# Altium integrated library Cypress Memory Static RAM.IntLib: 171 symbols (part 4 of 7)
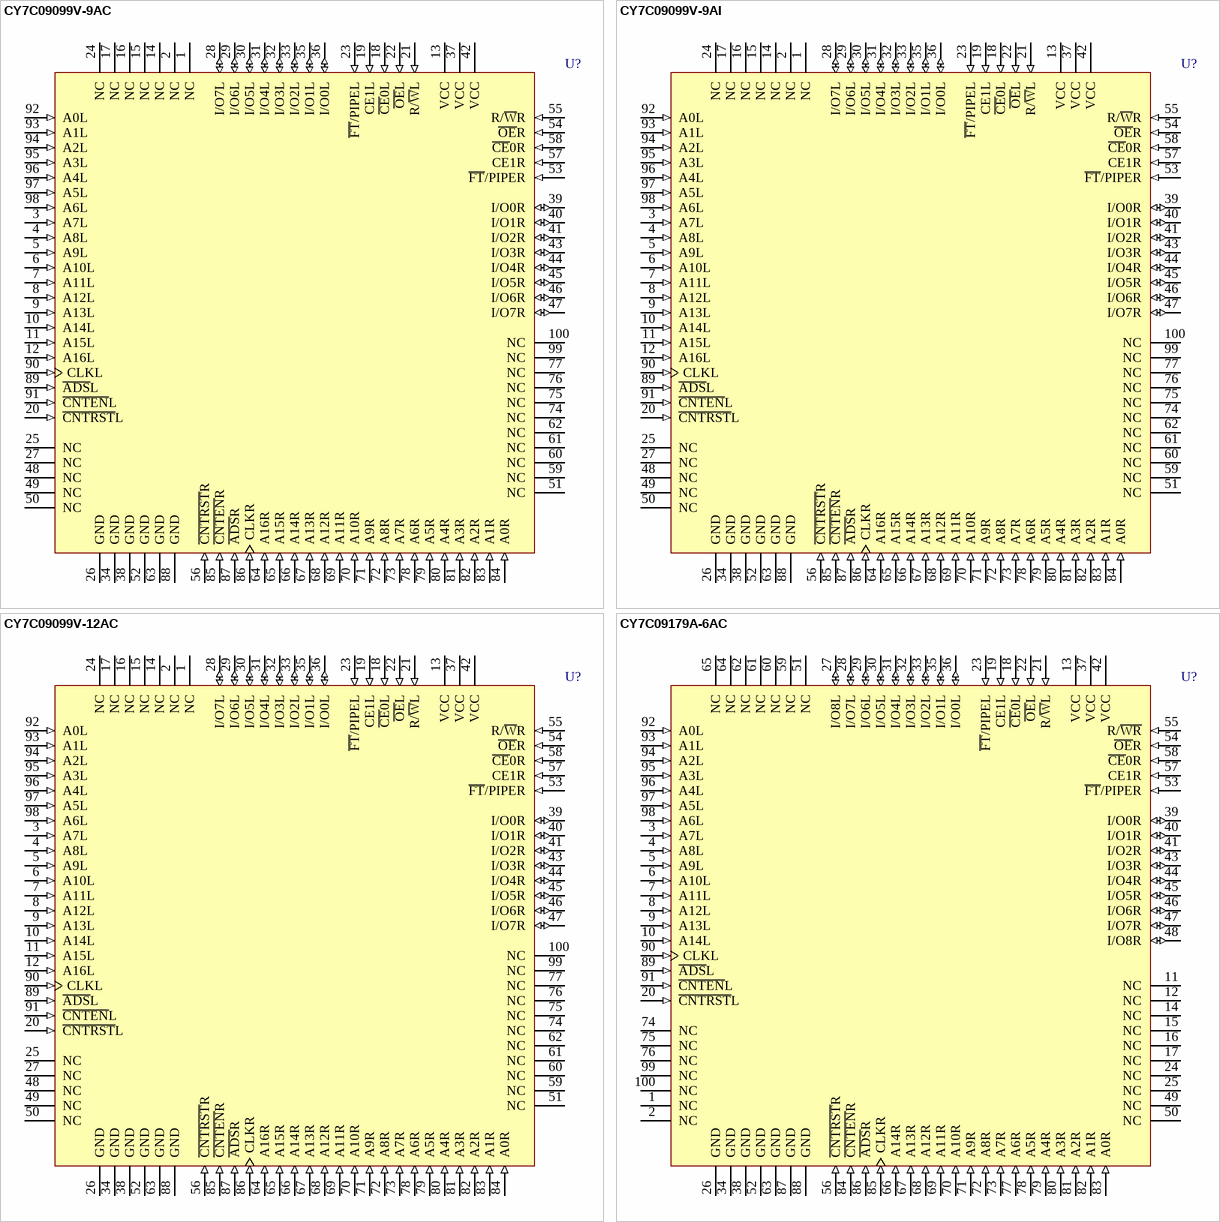
[diagram p28: symbols CY7C09099V-9AC to CY7C09179A-6AC]

## CY7C09099V-12AC
designator U?
3.3V 128K x 8 Synchronous Dual-Port Static RAM; Published: 11-Dec-2002; LatestRevisionDate: 13-Apr-2006; LatestRevisionNote: IPC-7351 Footprint Added.; DatasheetVersion: 2-Feb-2001; PackageVersion: Mar-2001; PackageReference: A100; Publisher: Altium Limited; PackageDescription: 100-Pin Thin Quad Flat Pack 0.5 mm Pitch; ComponentLink1Description: Manufacturer Link; ComponentLink1URL: http://www.cypress.com/; ComponentLink2Description: Datasheet; ComponentLink2URL: http://www.cypress.com/portal/server.pt/gateway/PTARGS_0_2_1524_209_259_43/http%3B/sjapp20.mis.cypress.com%3B7001/publishedcontent/publish/design_resources/datasheets/contents/cy7c09079v_5.pdf
footprint A100_N (Thin QFP, 100-Leads, Body 14x14mm, Pitch 0.5mm, IPC Medium Density)
footprint A100_L (Thin QFP, 100-Leads, Body 14x14mm, Pitch 0.5mm, IPC High Density)
footprint A100_M (Thin QFP, 100-Leads, Body 14x14mm, Pitch 0.5mm, IPC Low Density)
3D model CY7C09099V-A100 (100-Pin Thin Quad Flat Pack 0.5 mm Pitch)
pins: 1 NC, 2 NC, 3 A7L (in), 4 A8L (in), 5 A9L (in), 6 A10L (in), 7 A11L (in), 8 A12L (in), 9 A13L (in), 10 A14L (in), 11 A15L (in), 12 A16L (in), 13 VCC (power), 14 NC, 15 NC, 16 NC, 17 NC, 18 ~{CE}0L (in), 19 CE1L (in), 20 ~{CNTRST}L (in), 21 R/~{W}L (in), 22 ~{OE}L (in), 23 ~{FT}/PIPEL (in), 24 NC, 25 NC, 26 GND (power), 27 NC, 28 I/O7L (io), 29 I/O6L (io), 30 I/O5L (io), 31 I/O4L (io), 32 I/O3L (io), 33 I/O2L (io), 34 GND (power), 35 I/O1L (io), 36 I/O0L (io), 37 VCC (power), 38 GND (power), 39 I/O0R (io), 40 I/O1R (io), 41 I/O2R (io), 42 VCC (power), 43 I/O3R (io), 44 I/O4R (io), 45 I/O5R (io), 46 I/O6R (io), 47 I/O7R (io), 48 NC, 49 NC, 50 NC, 51 NC, 52 GND (power), 53 ~{FT}/PIPER (in), 54 ~{OE}R (in), 55 R/~{W}R (in), 56 ~{CNTRST}R (in), 57 CE1R (in), 58 ~{CE}0R (in), 59 NC, 60 NC, 61 NC, 62 NC, 63 GND (power), 64 A16R (in), 65 A15R (in), 66 A14R (in), 67 A13R (in), 68 A12R (in), 69 A11R (in), 70 A10R (in), 71 A9R (in), 72 A8R (in), 73 A7R (in), 74 NC, 75 NC, 76 NC, 77 NC, 78 A6R (in), 79 A5R (in), 80 A4R (in), 81 A3R (in), 82 A2R (in), 83 A1R (in), 84 A0R (in), 85 ~{CNTEN}R (in), 86 CLKR (in), 87 ~{ADS}R (in), 88 GND (power), 89 ~{ADS}L (in), 90 CLKL (in), 91 ~{CNTEN}L (in), 92 A0L (in), 93 A1L (in), 94 A2L (in), 95 A3L (in), 96 A4L (in), 97 A5L (in), 98 A6L (in), 99 NC, 100 NC

## CY7C09179A-6AC
designator U?
32K x 9 Synchronous Dual-Port RAM; Published: 11-Dec-2002; LatestRevisionDate: 13-Apr-2006; LatestRevisionNote: IPC-7351 Footprint Added.; DatasheetVersion: 3-Mar-2000; PackageVersion: Mar-2001; PackageReference: A100; Publisher: Altium Limited; PackageDescription: 100-Pin Thin Quad Flat Pack 0.5 mm Pitch; ComponentLink1Description: Manufacturer Link; ComponentLink1URL: http://www.cypress.com/; ComponentLink2Description: Datasheet; ComponentLink2URL: http://www.cypress.com/portal/server.pt/gateway/PTARGS_0_2_1524_209_259_43/http%3B/sjapp20.mis.cypress.com%3B7001/publishedcontent/publish/design_resources/datasheets/contents/cy7c09269a_5.pdf
footprint A100_N (Thin QFP, 100-Leads, Body 14x14mm, Pitch 0.5mm, IPC Medium Density)
footprint A100_L (Thin QFP, 100-Leads, Body 14x14mm, Pitch 0.5mm, IPC High Density)
footprint A100_M (Thin QFP, 100-Leads, Body 14x14mm, Pitch 0.5mm, IPC Low Density)
3D model CY7C09179A-A100 (100-Pin Thin Quad Flat Pack 0.5 mm Pitch)
pins: 1 NC, 2 NC, 3 A7L (in), 4 A8L (in), 5 A9L (in), 6 A10L (in), 7 A11L (in), 8 A12L (in), 9 A13L (in), 10 A14L (in), 11 NC, 12 NC, 13 VCC (power), 14 NC, 15 NC, 16 NC, 17 NC, 18 ~{CE}0L (in), 19 CE1L (in), 20 ~{CNTRST}L (in), 21 R/~{W}L (in), 22 ~{OE}L (in), 23 ~{FT}/PIPEL (in), 24 NC, 25 NC, 26 GND (power), 27 I/O8L (io), 28 I/O7L (io), 29 I/O6L (io), 30 I/O5L (io), 31 I/O4L (io), 32 I/O3L (io), 33 I/O2L (io), 34 GND (power), 35 I/O1L (io), 36 I/O0L (io), 37 VCC (power), 38 GND (power), 39 I/O0R (io), 40 I/O1R (io), 41 I/O2R (io), 42 VCC (power), 43 I/O3R (io), 44 I/O4R (io), 45 I/O5R (io), 46 I/O6R (io), 47 I/O7R (io), 48 I/O8R (io), 49 NC, 50 NC, 51 NC, 52 GND (power), 53 ~{FT}/PIPER (in), 54 ~{OE}R (in), 55 R/~{WR} (in), 56 ~{CNTRST}R (in), 57 CE1R (in), 58 ~{CE}0R (in), 59 NC, 60 NC, 61 NC, 62 NC, 63 GND (power), 64 NC, 65 NC, 66 A14R (in), 67 A13R (in), 68 A12R (in), 69 A11R (in), 70 A10R (in), 71 A9R (in), 72 A8R (in), 73 A7R (in), 74 NC, 75 NC, 76 NC, 77 A6R (in), 78 A5R (in), 79 A4R (in), 80 A3R (in), 81 A2R (in), 82 A1R (in), 83 A0R (in), 84 ~{CNTEN}R (in), 85 CLKR (in), 86 ~{ADS}R (in), 87 GND (power), 88 GND (power), 89 ~{ADS}L (in), 90 CLKL (in), 91 ~{CNTEN}L (in), 92 A0L (in), 93 A1L (in), 94 A2L (in), 95 A3L (in), 96 A4L (in), 97 A5L (in), 98 A6L (in), 99 NC, 100 NC

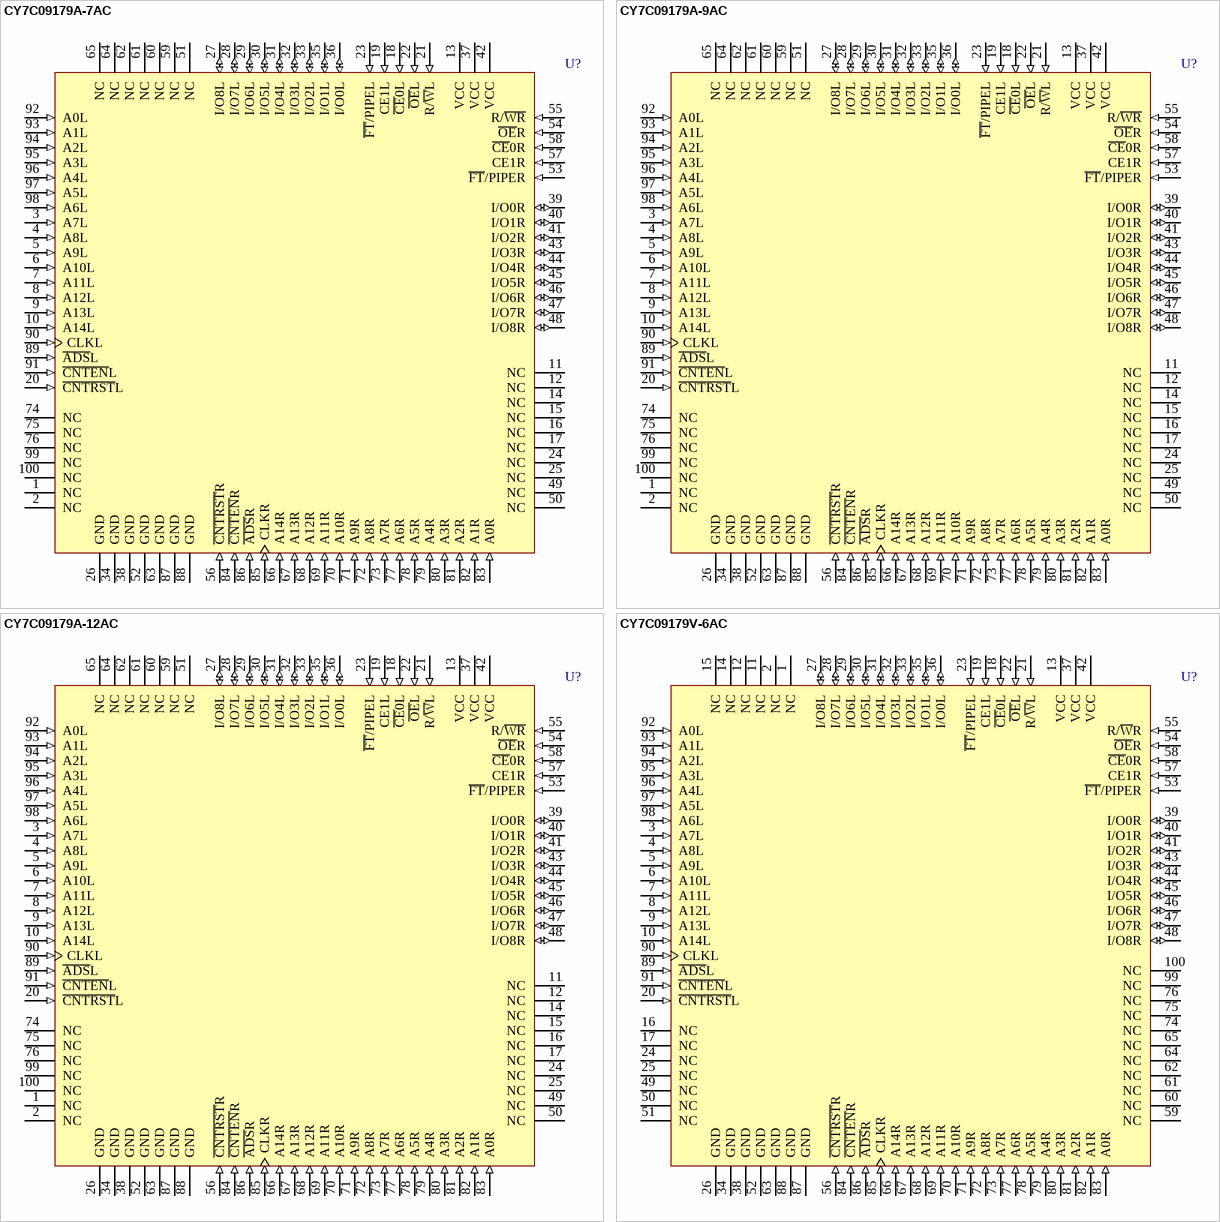
[diagram p12: symbols CY7C09179A-7AC to CY7C09179V-6AC]

## CY7C09179A-7AC
designator U?
32K x 9 Synchronous Dual-Port RAM; Published: 11-Dec-2002; LatestRevisionDate: 13-Apr-2006; LatestRevisionNote: IPC-7351 Footprint Added.; DatasheetVersion: 3-Mar-2000; PackageVersion: Mar-2001; PackageReference: A100; Publisher: Altium Limited; PackageDescription: 100-Pin Thin Quad Flat Pack 0.5 mm Pitch; ComponentLink1Description: Manufacturer Link; ComponentLink1URL: http://www.cypress.com/; ComponentLink2Description: Datasheet; ComponentLink2URL: http://www.cypress.com/portal/server.pt/gateway/PTARGS_0_2_1524_209_259_43/http%3B/sjapp20.mis.cypress.com%3B7001/publishedcontent/publish/design_resources/datasheets/contents/cy7c09269a_5.pdf
footprint A100_N (Thin QFP, 100-Leads, Body 14x14mm, Pitch 0.5mm, IPC Medium Density)
footprint A100_L (Thin QFP, 100-Leads, Body 14x14mm, Pitch 0.5mm, IPC High Density)
footprint A100_M (Thin QFP, 100-Leads, Body 14x14mm, Pitch 0.5mm, IPC Low Density)
3D model CY7C09179A-A100 (100-Pin Thin Quad Flat Pack 0.5 mm Pitch)
pins: 1 NC, 2 NC, 3 A7L (in), 4 A8L (in), 5 A9L (in), 6 A10L (in), 7 A11L (in), 8 A12L (in), 9 A13L (in), 10 A14L (in), 11 NC, 12 NC, 13 VCC (power), 14 NC, 15 NC, 16 NC, 17 NC, 18 ~{CE}0L (in), 19 CE1L (in), 20 ~{CNTRST}L (in), 21 R/~{W}L (in), 22 ~{OE}L (in), 23 ~{FT}/PIPEL (in), 24 NC, 25 NC, 26 GND (power), 27 I/O8L (io), 28 I/O7L (io), 29 I/O6L (io), 30 I/O5L (io), 31 I/O4L (io), 32 I/O3L (io), 33 I/O2L (io), 34 GND (power), 35 I/O1L (io), 36 I/O0L (io), 37 VCC (power), 38 GND (power), 39 I/O0R (io), 40 I/O1R (io), 41 I/O2R (io), 42 VCC (power), 43 I/O3R (io), 44 I/O4R (io), 45 I/O5R (io), 46 I/O6R (io), 47 I/O7R (io), 48 I/O8R (io), 49 NC, 50 NC, 51 NC, 52 GND (power), 53 ~{FT}/PIPER (in), 54 ~{OE}R (in), 55 R/~{WR} (in), 56 ~{CNTRST}R (in), 57 CE1R (in), 58 ~{CE}0R (in), 59 NC, 60 NC, 61 NC, 62 NC, 63 GND (power), 64 NC, 65 NC, 66 A14R (in), 67 A13R (in), 68 A12R (in), 69 A11R (in), 70 A10R (in), 71 A9R (in), 72 A8R (in), 73 A7R (in), 74 NC, 75 NC, 76 NC, 77 A6R (in), 78 A5R (in), 79 A4R (in), 80 A3R (in), 81 A2R (in), 82 A1R (in), 83 A0R (in), 84 ~{CNTEN}R (in), 85 CLKR (in), 86 ~{ADS}R (in), 87 GND (power), 88 GND (power), 89 ~{ADS}L (in), 90 CLKL (in), 91 ~{CNTEN}L (in), 92 A0L (in), 93 A1L (in), 94 A2L (in), 95 A3L (in), 96 A4L (in), 97 A5L (in), 98 A6L (in), 99 NC, 100 NC

## CY7C09179A-9AC
designator U?
32K x 9 Synchronous Dual-Port RAM; Published: 11-Dec-2002; LatestRevisionDate: 13-Apr-2006; LatestRevisionNote: IPC-7351 Footprint Added.; DatasheetVersion: 3-Mar-2000; PackageVersion: Mar-2001; PackageReference: A100; Publisher: Altium Limited; PackageDescription: 100-Pin Thin Quad Flat Pack 0.5 mm Pitch; ComponentLink1Description: Manufacturer Link; ComponentLink1URL: http://www.cypress.com/; ComponentLink2Description: Datasheet; ComponentLink2URL: http://www.cypress.com/portal/server.pt/gateway/PTARGS_0_2_1524_209_259_43/http%3B/sjapp20.mis.cypress.com%3B7001/publishedcontent/publish/design_resources/datasheets/contents/cy7c09269a_5.pdf
footprint A100_N (Thin QFP, 100-Leads, Body 14x14mm, Pitch 0.5mm, IPC Medium Density)
footprint A100_L (Thin QFP, 100-Leads, Body 14x14mm, Pitch 0.5mm, IPC High Density)
footprint A100_M (Thin QFP, 100-Leads, Body 14x14mm, Pitch 0.5mm, IPC Low Density)
3D model CY7C09179A-A100 (100-Pin Thin Quad Flat Pack 0.5 mm Pitch)
pins: 1 NC, 2 NC, 3 A7L (in), 4 A8L (in), 5 A9L (in), 6 A10L (in), 7 A11L (in), 8 A12L (in), 9 A13L (in), 10 A14L (in), 11 NC, 12 NC, 13 VCC (power), 14 NC, 15 NC, 16 NC, 17 NC, 18 ~{CE}0L (in), 19 CE1L (in), 20 ~{CNTRST}L (in), 21 R/~{W}L (in), 22 ~{OE}L (in), 23 ~{FT}/PIPEL (in), 24 NC, 25 NC, 26 GND (power), 27 I/O8L (io), 28 I/O7L (io), 29 I/O6L (io), 30 I/O5L (io), 31 I/O4L (io), 32 I/O3L (io), 33 I/O2L (io), 34 GND (power), 35 I/O1L (io), 36 I/O0L (io), 37 VCC (power), 38 GND (power), 39 I/O0R (io), 40 I/O1R (io), 41 I/O2R (io), 42 VCC (power), 43 I/O3R (io), 44 I/O4R (io), 45 I/O5R (io), 46 I/O6R (io), 47 I/O7R (io), 48 I/O8R (io), 49 NC, 50 NC, 51 NC, 52 GND (power), 53 ~{FT}/PIPER (in), 54 ~{OE}R (in), 55 R/~{WR} (in), 56 ~{CNTRST}R (in), 57 CE1R (in), 58 ~{CE}0R (in), 59 NC, 60 NC, 61 NC, 62 NC, 63 GND (power), 64 NC, 65 NC, 66 A14R (in), 67 A13R (in), 68 A12R (in), 69 A11R (in), 70 A10R (in), 71 A9R (in), 72 A8R (in), 73 A7R (in), 74 NC, 75 NC, 76 NC, 77 A6R (in), 78 A5R (in), 79 A4R (in), 80 A3R (in), 81 A2R (in), 82 A1R (in), 83 A0R (in), 84 ~{CNTEN}R (in), 85 CLKR (in), 86 ~{ADS}R (in), 87 GND (power), 88 GND (power), 89 ~{ADS}L (in), 90 CLKL (in), 91 ~{CNTEN}L (in), 92 A0L (in), 93 A1L (in), 94 A2L (in), 95 A3L (in), 96 A4L (in), 97 A5L (in), 98 A6L (in), 99 NC, 100 NC

## CY7C09179A-12AC
designator U?
32K x 9 Synchronous Dual-Port RAM; Published: 11-Dec-2002; LatestRevisionDate: 13-Apr-2006; LatestRevisionNote: IPC-7351 Footprint Added.; DatasheetVersion: 3-Mar-2000; PackageVersion: Mar-2001; PackageReference: A100; Publisher: Altium Limited; PackageDescription: 100-Pin Thin Quad Flat Pack 0.5 mm Pitch; ComponentLink1Description: Manufacturer Link; ComponentLink1URL: http://www.cypress.com/; ComponentLink2Description: Datasheet; ComponentLink2URL: http://www.cypress.com/portal/server.pt/gateway/PTARGS_0_2_1524_209_259_43/http%3B/sjapp20.mis.cypress.com%3B7001/publishedcontent/publish/design_resources/datasheets/contents/cy7c09269a_5.pdf
footprint A100_N (Thin QFP, 100-Leads, Body 14x14mm, Pitch 0.5mm, IPC Medium Density)
footprint A100_L (Thin QFP, 100-Leads, Body 14x14mm, Pitch 0.5mm, IPC High Density)
footprint A100_M (Thin QFP, 100-Leads, Body 14x14mm, Pitch 0.5mm, IPC Low Density)
3D model CY7C09179A-A100 (100-Pin Thin Quad Flat Pack 0.5 mm Pitch)
pins: 1 NC, 2 NC, 3 A7L (in), 4 A8L (in), 5 A9L (in), 6 A10L (in), 7 A11L (in), 8 A12L (in), 9 A13L (in), 10 A14L (in), 11 NC, 12 NC, 13 VCC (power), 14 NC, 15 NC, 16 NC, 17 NC, 18 ~{CE}0L (in), 19 CE1L (in), 20 ~{CNTRST}L (in), 21 R/~{W}L (in), 22 ~{OE}L (in), 23 ~{FT}/PIPEL (in), 24 NC, 25 NC, 26 GND (power), 27 I/O8L (io), 28 I/O7L (io), 29 I/O6L (io), 30 I/O5L (io), 31 I/O4L (io), 32 I/O3L (io), 33 I/O2L (io), 34 GND (power), 35 I/O1L (io), 36 I/O0L (io), 37 VCC (power), 38 GND (power), 39 I/O0R (io), 40 I/O1R (io), 41 I/O2R (io), 42 VCC (power), 43 I/O3R (io), 44 I/O4R (io), 45 I/O5R (io), 46 I/O6R (io), 47 I/O7R (io), 48 I/O8R (io), 49 NC, 50 NC, 51 NC, 52 GND (power), 53 ~{FT}/PIPER (in), 54 ~{OE}R (in), 55 R/~{WR} (in), 56 ~{CNTRST}R (in), 57 CE1R (in), 58 ~{CE}0R (in), 59 NC, 60 NC, 61 NC, 62 NC, 63 GND (power), 64 NC, 65 NC, 66 A14R (in), 67 A13R (in), 68 A12R (in), 69 A11R (in), 70 A10R (in), 71 A9R (in), 72 A8R (in), 73 A7R (in), 74 NC, 75 NC, 76 NC, 77 A6R (in), 78 A5R (in), 79 A4R (in), 80 A3R (in), 81 A2R (in), 82 A1R (in), 83 A0R (in), 84 ~{CNTEN}R (in), 85 CLKR (in), 86 ~{ADS}R (in), 87 GND (power), 88 GND (power), 89 ~{ADS}L (in), 90 CLKL (in), 91 ~{CNTEN}L (in), 92 A0L (in), 93 A1L (in), 94 A2L (in), 95 A3L (in), 96 A4L (in), 97 A5L (in), 98 A6L (in), 99 NC, 100 NC

## CY7C09179V-6AC
designator U?
3.3V 32K x 9 Synchronous Dual-Port Static RAM; Published: 11-Dec-2002; LatestRevisionDate: 13-Apr-2006; LatestRevisionNote: IPC-7351 Footprint Added.; DatasheetVersion: 2-Feb-2001; PackageVersion: Mar-2001; PackageReference: A100; Publisher: Altium Limited; PackageDescription: 100-Pin Thin Quad Flat Pack 0.5 mm Pitch; ComponentLink1Description: Manufacturer Link; ComponentLink1URL: http://www.cypress.com/; ComponentLink2Description: Datasheet; ComponentLink2URL: http://www.cypress.com/portal/server.pt/gateway/PTARGS_0_2_1524_209_259_43/http%3B/sjapp20.mis.cypress.com%3B7001/publishedcontent/publish/design_resources/datasheets/contents/cy7c09079v_5.pdf
footprint A100_N (Thin QFP, 100-Leads, Body 14x14mm, Pitch 0.5mm, IPC Medium Density)
footprint A100_L (Thin QFP, 100-Leads, Body 14x14mm, Pitch 0.5mm, IPC High Density)
footprint A100_M (Thin QFP, 100-Leads, Body 14x14mm, Pitch 0.5mm, IPC Low Density)
3D model CY7C09179V-A100 (100-Pin Thin Quad Flat Pack 0.5 mm Pitch)
pins: 1 NC, 2 NC, 3 A7L (in), 4 A8L (in), 5 A9L (in), 6 A10L (in), 7 A11L (in), 8 A12L (in), 9 A13L (in), 10 A14L (in), 11 NC, 12 NC, 13 VCC (power), 14 NC, 15 NC, 16 NC, 17 NC, 18 ~{CE}0L (in), 19 CE1L (in), 20 ~{CNTRST}L (in), 21 R/~{W}L (in), 22 ~{OE}L (in), 23 ~{FT}/PIPEL (in), 24 NC, 25 NC, 26 GND (power), 27 I/O8L (io), 28 I/O7L (io), 29 I/O6L (io), 30 I/O5L (io), 31 I/O4L (io), 32 I/O3L (io), 33 I/O2L (io), 34 GND (power), 35 I/O1L (io), 36 I/O0L (io), 37 VCC (power), 38 GND (power), 39 I/O0R (io), 40 I/O1R (io), 41 I/O2R (io), 42 VCC (power), 43 I/O3R (io), 44 I/O4R (io), 45 I/O5R (io), 46 I/O6R (io), 47 I/O7R (io), 48 I/O8R (io), 49 NC, 50 NC, 51 NC, 52 GND (power), 53 ~{FT}/PIPER (in), 54 ~{OE}R (in), 55 R/~{W}R (in), 56 ~{CNTRST}R (in), 57 CE1R (in), 58 ~{CE}0R (in), 59 NC, 60 NC, 61 NC, 62 NC, 63 GND (power), 64 NC, 65 NC, 66 A14R (in), 67 A13R (in), 68 A12R (in), 69 A11R (in), 70 A10R (in), 71 A9R (in), 72 A8R (in), 73 A7R (in), 74 NC, 75 NC, 76 NC, 77 A6R (in), 78 A5R (in), 79 A4R (in), 80 A3R (in), 81 A2R (in), 82 A1R (in), 83 A0R (in), 84 ~{CNTEN}R (in), 85 CLKR (in), 86 ~{ADS}R (in), 87 GND (power), 88 GND (power), 89 ~{ADS}L (in), 90 CLKL (in), 91 ~{CNTEN}L (in), 92 A0L (in), 93 A1L (in), 94 A2L (in), 95 A3L (in), 96 A4L (in), 97 A5L (in), 98 A6L (in), 99 NC, 100 NC

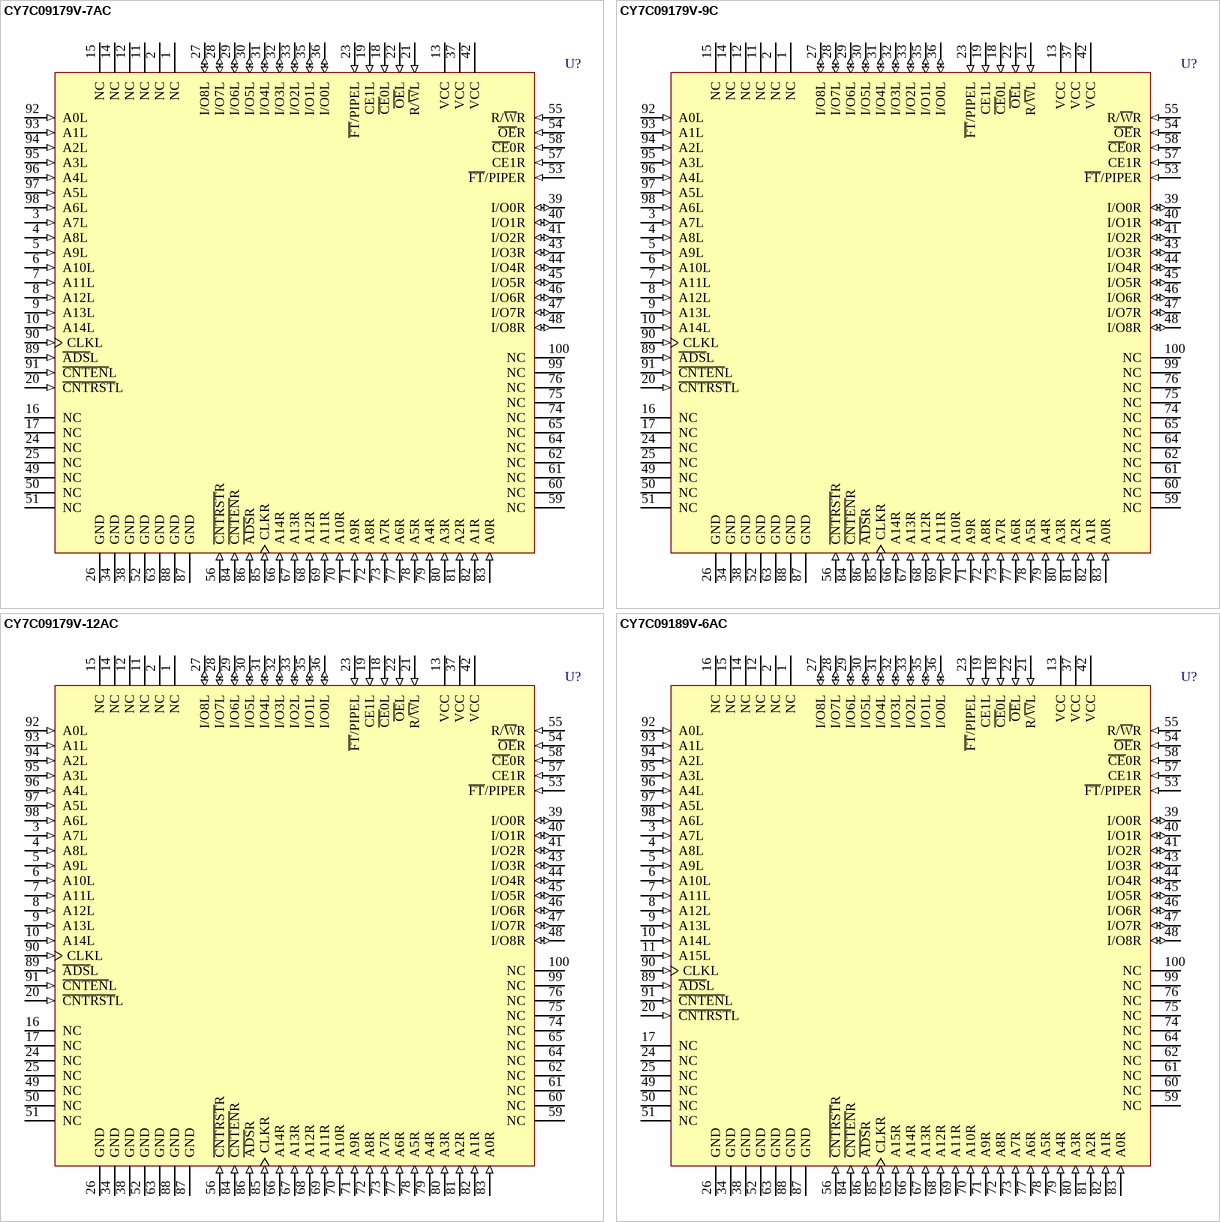
[diagram p13: symbols CY7C09179V-7AC to CY7C09189V-6AC]

## CY7C09179V-7AC
designator U?
3.3V 32K x 9 Synchronous Dual-Port Static RAM; Published: 11-Dec-2002; LatestRevisionDate: 13-Apr-2006; LatestRevisionNote: IPC-7351 Footprint Added.; DatasheetVersion: 2-Feb-2001; PackageVersion: Mar-2001; PackageReference: A100; Publisher: Altium Limited; PackageDescription: 100-Pin Thin Quad Flat Pack 0.5 mm Pitch; ComponentLink1Description: Manufacturer Link; ComponentLink1URL: http://www.cypress.com/; ComponentLink2Description: Datasheet; ComponentLink2URL: http://www.cypress.com/portal/server.pt/gateway/PTARGS_0_2_1524_209_259_43/http%3B/sjapp20.mis.cypress.com%3B7001/publishedcontent/publish/design_resources/datasheets/contents/cy7c09079v_5.pdf
footprint A100_N (Thin QFP, 100-Leads, Body 14x14mm, Pitch 0.5mm, IPC Medium Density)
footprint A100_L (Thin QFP, 100-Leads, Body 14x14mm, Pitch 0.5mm, IPC High Density)
footprint A100_M (Thin QFP, 100-Leads, Body 14x14mm, Pitch 0.5mm, IPC Low Density)
3D model CY7C09179V-A100 (100-Pin Thin Quad Flat Pack 0.5 mm Pitch)
pins: 1 NC, 2 NC, 3 A7L (in), 4 A8L (in), 5 A9L (in), 6 A10L (in), 7 A11L (in), 8 A12L (in), 9 A13L (in), 10 A14L (in), 11 NC, 12 NC, 13 VCC (power), 14 NC, 15 NC, 16 NC, 17 NC, 18 ~{CE}0L (in), 19 CE1L (in), 20 ~{CNTRST}L (in), 21 R/~{W}L (in), 22 ~{OE}L (in), 23 ~{FT}/PIPEL (in), 24 NC, 25 NC, 26 GND (power), 27 I/O8L (io), 28 I/O7L (io), 29 I/O6L (io), 30 I/O5L (io), 31 I/O4L (io), 32 I/O3L (io), 33 I/O2L (io), 34 GND (power), 35 I/O1L (io), 36 I/O0L (io), 37 VCC (power), 38 GND (power), 39 I/O0R (io), 40 I/O1R (io), 41 I/O2R (io), 42 VCC (power), 43 I/O3R (io), 44 I/O4R (io), 45 I/O5R (io), 46 I/O6R (io), 47 I/O7R (io), 48 I/O8R (io), 49 NC, 50 NC, 51 NC, 52 GND (power), 53 ~{FT}/PIPER (in), 54 ~{OE}R (in), 55 R/~{W}R (in), 56 ~{CNTRST}R (in), 57 CE1R (in), 58 ~{CE}0R (in), 59 NC, 60 NC, 61 NC, 62 NC, 63 GND (power), 64 NC, 65 NC, 66 A14R (in), 67 A13R (in), 68 A12R (in), 69 A11R (in), 70 A10R (in), 71 A9R (in), 72 A8R (in), 73 A7R (in), 74 NC, 75 NC, 76 NC, 77 A6R (in), 78 A5R (in), 79 A4R (in), 80 A3R (in), 81 A2R (in), 82 A1R (in), 83 A0R (in), 84 ~{CNTEN}R (in), 85 CLKR (in), 86 ~{ADS}R (in), 87 GND (power), 88 GND (power), 89 ~{ADS}L (in), 90 CLKL (in), 91 ~{CNTEN}L (in), 92 A0L (in), 93 A1L (in), 94 A2L (in), 95 A3L (in), 96 A4L (in), 97 A5L (in), 98 A6L (in), 99 NC, 100 NC

## CY7C09179V-9C
designator U?
3.3V 32K x 9 Synchronous Dual-Port Static RAM; Published: 11-Dec-2002; LatestRevisionDate: 13-Apr-2006; LatestRevisionNote: IPC-7351 Footprint Added.; DatasheetVersion: 2-Feb-2001; PackageVersion: Mar-2001; PackageReference: A100; Publisher: Altium Limited; PackageDescription: 100-Pin Thin Quad Flat Pack 0.5 mm Pitch; ComponentLink1Description: Manufacturer Link; ComponentLink1URL: http://www.cypress.com/; ComponentLink2Description: Datasheet; ComponentLink2URL: http://www.cypress.com/portal/server.pt/gateway/PTARGS_0_2_1524_209_259_43/http%3B/sjapp20.mis.cypress.com%3B7001/publishedcontent/publish/design_resources/datasheets/contents/cy7c09079v_5.pdf
footprint A100_N (Thin QFP, 100-Leads, Body 14x14mm, Pitch 0.5mm, IPC Medium Density)
footprint A100_L (Thin QFP, 100-Leads, Body 14x14mm, Pitch 0.5mm, IPC High Density)
footprint A100_M (Thin QFP, 100-Leads, Body 14x14mm, Pitch 0.5mm, IPC Low Density)
3D model CY7C09179V-A100 (100-Pin Thin Quad Flat Pack 0.5 mm Pitch)
pins: 1 NC, 2 NC, 3 A7L (in), 4 A8L (in), 5 A9L (in), 6 A10L (in), 7 A11L (in), 8 A12L (in), 9 A13L (in), 10 A14L (in), 11 NC, 12 NC, 13 VCC (power), 14 NC, 15 NC, 16 NC, 17 NC, 18 ~{CE}0L (in), 19 CE1L (in), 20 ~{CNTRST}L (in), 21 R/~{W}L (in), 22 ~{OE}L (in), 23 ~{FT}/PIPEL (in), 24 NC, 25 NC, 26 GND (power), 27 I/O8L (io), 28 I/O7L (io), 29 I/O6L (io), 30 I/O5L (io), 31 I/O4L (io), 32 I/O3L (io), 33 I/O2L (io), 34 GND (power), 35 I/O1L (io), 36 I/O0L (io), 37 VCC (power), 38 GND (power), 39 I/O0R (io), 40 I/O1R (io), 41 I/O2R (io), 42 VCC (power), 43 I/O3R (io), 44 I/O4R (io), 45 I/O5R (io), 46 I/O6R (io), 47 I/O7R (io), 48 I/O8R (io), 49 NC, 50 NC, 51 NC, 52 GND (power), 53 ~{FT}/PIPER (in), 54 ~{OE}R (in), 55 R/~{W}R (in), 56 ~{CNTRST}R (in), 57 CE1R (in), 58 ~{CE}0R (in), 59 NC, 60 NC, 61 NC, 62 NC, 63 GND (power), 64 NC, 65 NC, 66 A14R (in), 67 A13R (in), 68 A12R (in), 69 A11R (in), 70 A10R (in), 71 A9R (in), 72 A8R (in), 73 A7R (in), 74 NC, 75 NC, 76 NC, 77 A6R (in), 78 A5R (in), 79 A4R (in), 80 A3R (in), 81 A2R (in), 82 A1R (in), 83 A0R (in), 84 ~{CNTEN}R (in), 85 CLKR (in), 86 ~{ADS}R (in), 87 GND (power), 88 GND (power), 89 ~{ADS}L (in), 90 CLKL (in), 91 ~{CNTEN}L (in), 92 A0L (in), 93 A1L (in), 94 A2L (in), 95 A3L (in), 96 A4L (in), 97 A5L (in), 98 A6L (in), 99 NC, 100 NC

## CY7C09179V-12AC
designator U?
3.3V 32K x 9 Synchronous Dual-Port Static RAM; Published: 11-Dec-2002; LatestRevisionDate: 13-Apr-2006; LatestRevisionNote: IPC-7351 Footprint Added.; DatasheetVersion: 2-Feb-2001; PackageVersion: Mar-2001; PackageReference: A100; Publisher: Altium Limited; PackageDescription: 100-Pin Thin Quad Flat Pack 0.5 mm Pitch; ComponentLink1Description: Manufacturer Link; ComponentLink1URL: http://www.cypress.com/; ComponentLink2Description: Datasheet; ComponentLink2URL: http://www.cypress.com/portal/server.pt/gateway/PTARGS_0_2_1524_209_259_43/http%3B/sjapp20.mis.cypress.com%3B7001/publishedcontent/publish/design_resources/datasheets/contents/cy7c09079v_5.pdf
footprint A100_N (Thin QFP, 100-Leads, Body 14x14mm, Pitch 0.5mm, IPC Medium Density)
footprint A100_L (Thin QFP, 100-Leads, Body 14x14mm, Pitch 0.5mm, IPC High Density)
footprint A100_M (Thin QFP, 100-Leads, Body 14x14mm, Pitch 0.5mm, IPC Low Density)
3D model CY7C09179V-A100 (100-Pin Thin Quad Flat Pack 0.5 mm Pitch)
pins: 1 NC, 2 NC, 3 A7L (in), 4 A8L (in), 5 A9L (in), 6 A10L (in), 7 A11L (in), 8 A12L (in), 9 A13L (in), 10 A14L (in), 11 NC, 12 NC, 13 VCC (power), 14 NC, 15 NC, 16 NC, 17 NC, 18 ~{CE}0L (in), 19 CE1L (in), 20 ~{CNTRST}L (in), 21 R/~{W}L (in), 22 ~{OE}L (in), 23 ~{FT}/PIPEL (in), 24 NC, 25 NC, 26 GND (power), 27 I/O8L (io), 28 I/O7L (io), 29 I/O6L (io), 30 I/O5L (io), 31 I/O4L (io), 32 I/O3L (io), 33 I/O2L (io), 34 GND (power), 35 I/O1L (io), 36 I/O0L (io), 37 VCC (power), 38 GND (power), 39 I/O0R (io), 40 I/O1R (io), 41 I/O2R (io), 42 VCC (power), 43 I/O3R (io), 44 I/O4R (io), 45 I/O5R (io), 46 I/O6R (io), 47 I/O7R (io), 48 I/O8R (io), 49 NC, 50 NC, 51 NC, 52 GND (power), 53 ~{FT}/PIPER (in), 54 ~{OE}R (in), 55 R/~{W}R (in), 56 ~{CNTRST}R (in), 57 CE1R (in), 58 ~{CE}0R (in), 59 NC, 60 NC, 61 NC, 62 NC, 63 GND (power), 64 NC, 65 NC, 66 A14R (in), 67 A13R (in), 68 A12R (in), 69 A11R (in), 70 A10R (in), 71 A9R (in), 72 A8R (in), 73 A7R (in), 74 NC, 75 NC, 76 NC, 77 A6R (in), 78 A5R (in), 79 A4R (in), 80 A3R (in), 81 A2R (in), 82 A1R (in), 83 A0R (in), 84 ~{CNTEN}R (in), 85 CLKR (in), 86 ~{ADS}R (in), 87 GND (power), 88 GND (power), 89 ~{ADS}L (in), 90 CLKL (in), 91 ~{CNTEN}L (in), 92 A0L (in), 93 A1L (in), 94 A2L (in), 95 A3L (in), 96 A4L (in), 97 A5L (in), 98 A6L (in), 99 NC, 100 NC

## CY7C09189V-6AC
designator U?
3.3V 64K x 9 Synchronous Dual-Port Static RAM; Published: 11-Dec-2002; LatestRevisionDate: 13-Apr-2006; LatestRevisionNote: IPC-7351 Footprint Added.; DatasheetVersion: 2-Feb-2001; PackageVersion: Mar-2001; PackageReference: A100; Publisher: Altium Limited; PackageDescription: 100-Pin Thin Quad Flat Pack 0.5 mm Pitch; ComponentLink1Description: Manufacturer Link; ComponentLink1URL: http://www.cypress.com/; ComponentLink2Description: Datasheet; ComponentLink2URL: http://www.cypress.com/portal/server.pt/gateway/PTARGS_0_2_1524_209_259_43/http%3B/sjapp20.mis.cypress.com%3B7001/publishedcontent/publish/design_resources/datasheets/contents/cy7c09079v_5.pdf
footprint A100_N (Thin QFP, 100-Leads, Body 14x14mm, Pitch 0.5mm, IPC Medium Density)
footprint A100_L (Thin QFP, 100-Leads, Body 14x14mm, Pitch 0.5mm, IPC High Density)
footprint A100_M (Thin QFP, 100-Leads, Body 14x14mm, Pitch 0.5mm, IPC Low Density)
3D model CY7C09189V-A100 (100-Pin Thin Quad Flat Pack 0.5 mm Pitch)
pins: 1 NC, 2 NC, 3 A7L (in), 4 A8L (in), 5 A9L (in), 6 A10L (in), 7 A11L (in), 8 A12L (in), 9 A13L (in), 10 A14L (in), 11 A15L (in), 12 NC, 13 VCC (power), 14 NC, 15 NC, 16 NC, 17 NC, 18 ~{CE}0L (in), 19 CE1L (in), 20 ~{CNTRST}L (in), 21 R/~{W}L (in), 22 ~{OE}L (in), 23 ~{FT}/PIPEL (in), 24 NC, 25 NC, 26 GND (power), 27 I/O8L (io), 28 I/O7L (io), 29 I/O6L (io), 30 I/O5L (io), 31 I/O4L (io), 32 I/O3L (io), 33 I/O2L (io), 34 GND (power), 35 I/O1L (io), 36 I/O0L (io), 37 VCC (power), 38 GND (power), 39 I/O0R (io), 40 I/O1R (io), 41 I/O2R (io), 42 VCC (power), 43 I/O3R (io), 44 I/O4R (io), 45 I/O5R (io), 46 I/O6R (io), 47 I/O7R (io), 48 I/O8R (io), 49 NC, 50 NC, 51 NC, 52 GND (power), 53 ~{FT}/PIPER (in), 54 ~{OE}R (in), 55 R/~{W}R (in), 56 ~{CNTRST}R (in), 57 CE1R (in), 58 ~{CE}0R (in), 59 NC, 60 NC, 61 NC, 62 NC, 63 GND (power), 64 NC, 65 A15R (in), 66 A14R (in), 67 A13R (in), 68 A12R (in), 69 A11R (in), 70 A10R (in), 71 A9R (in), 72 A8R (in), 73 A7R (in), 74 NC, 75 NC, 76 NC, 77 A6R (in), 78 A5R (in), 79 A4R (in), 80 A3R (in), 81 A2R (in), 82 A1R (in), 83 A0R (in), 84 ~{CNTEN}R (in), 85 CLKR (in), 86 ~{ADS}R (in), 87 GND (power), 88 GND (power), 89 ~{ADS}L (in), 90 CLKL (in), 91 ~{CNTEN}L (in), 92 A0L (in), 93 A1L (in), 94 A2L (in), 95 A3L (in), 96 A4L (in), 97 A5L (in), 98 A6L (in), 99 NC, 100 NC

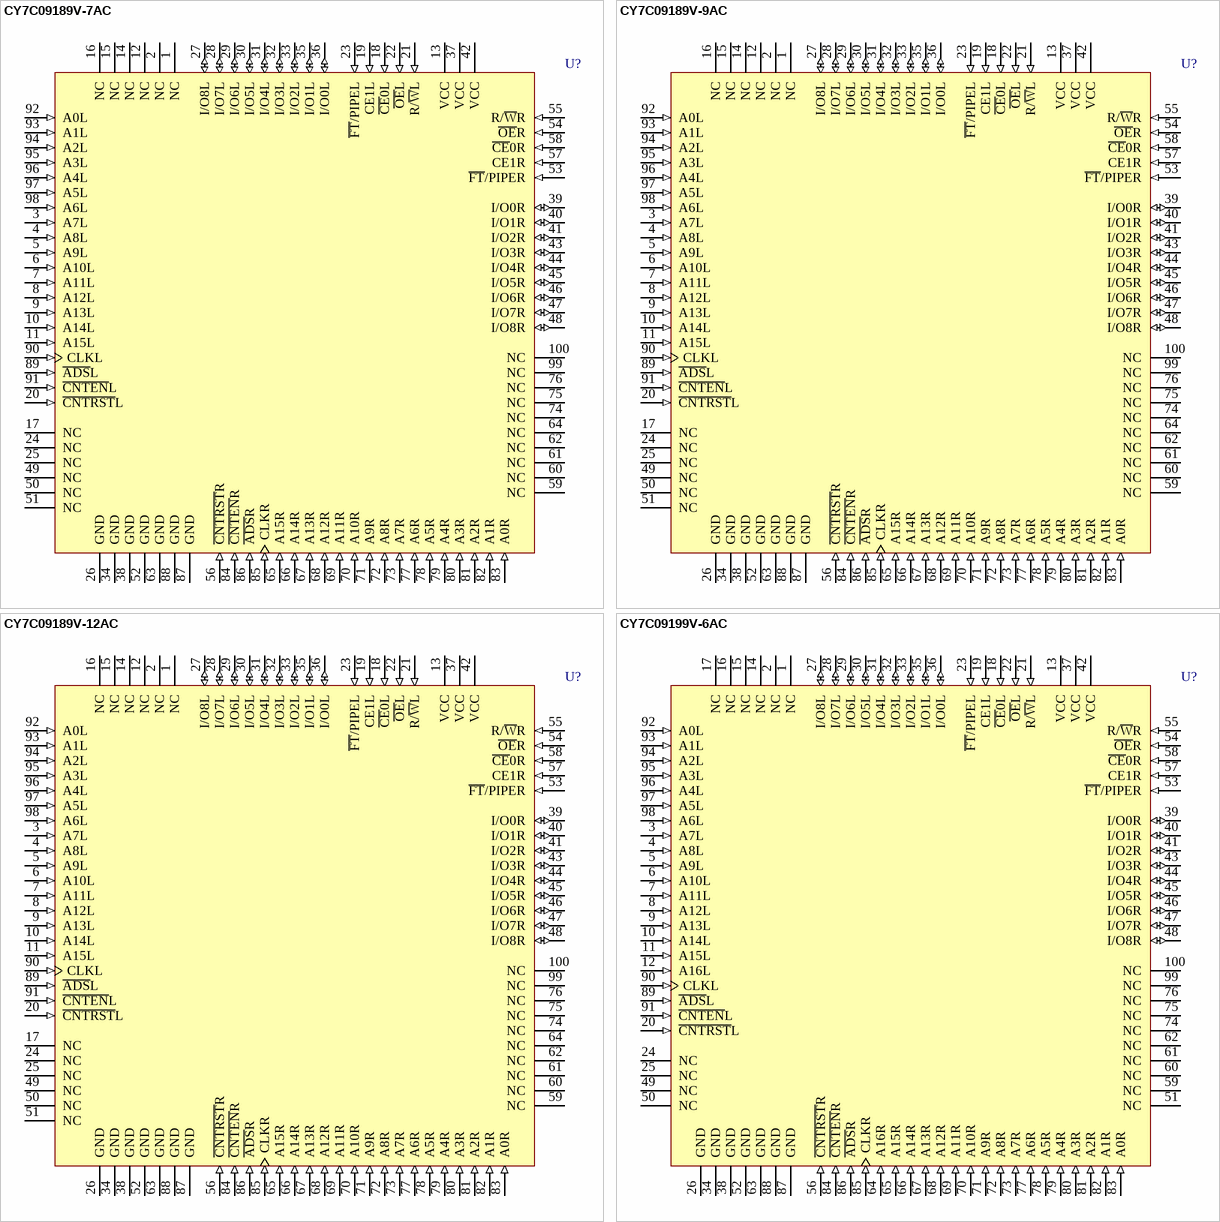
[diagram p14: symbols CY7C09189V-7AC to CY7C09199V-6AC]

## CY7C09189V-7AC
designator U?
3.3V 64K x 9 Synchronous Dual-Port Static RAM; Published: 11-Dec-2002; LatestRevisionDate: 13-Apr-2006; LatestRevisionNote: IPC-7351 Footprint Added.; DatasheetVersion: 2-Feb-2001; PackageVersion: Mar-2001; PackageReference: A100; Publisher: Altium Limited; PackageDescription: 100-Pin Thin Quad Flat Pack 0.5 mm Pitch; ComponentLink1Description: Manufacturer Link; ComponentLink1URL: http://www.cypress.com/; ComponentLink2Description: Datasheet; ComponentLink2URL: http://www.cypress.com/portal/server.pt/gateway/PTARGS_0_2_1524_209_259_43/http%3B/sjapp20.mis.cypress.com%3B7001/publishedcontent/publish/design_resources/datasheets/contents/cy7c09079v_5.pdf
footprint A100_N (Thin QFP, 100-Leads, Body 14x14mm, Pitch 0.5mm, IPC Medium Density)
footprint A100_L (Thin QFP, 100-Leads, Body 14x14mm, Pitch 0.5mm, IPC High Density)
footprint A100_M (Thin QFP, 100-Leads, Body 14x14mm, Pitch 0.5mm, IPC Low Density)
3D model CY7C09189V-A100 (100-Pin Thin Quad Flat Pack 0.5 mm Pitch)
pins: 1 NC, 2 NC, 3 A7L (in), 4 A8L (in), 5 A9L (in), 6 A10L (in), 7 A11L (in), 8 A12L (in), 9 A13L (in), 10 A14L (in), 11 A15L (in), 12 NC, 13 VCC (power), 14 NC, 15 NC, 16 NC, 17 NC, 18 ~{CE}0L (in), 19 CE1L (in), 20 ~{CNTRST}L (in), 21 R/~{W}L (in), 22 ~{OE}L (in), 23 ~{FT}/PIPEL (in), 24 NC, 25 NC, 26 GND (power), 27 I/O8L (io), 28 I/O7L (io), 29 I/O6L (io), 30 I/O5L (io), 31 I/O4L (io), 32 I/O3L (io), 33 I/O2L (io), 34 GND (power), 35 I/O1L (io), 36 I/O0L (io), 37 VCC (power), 38 GND (power), 39 I/O0R (io), 40 I/O1R (io), 41 I/O2R (io), 42 VCC (power), 43 I/O3R (io), 44 I/O4R (io), 45 I/O5R (io), 46 I/O6R (io), 47 I/O7R (io), 48 I/O8R (io), 49 NC, 50 NC, 51 NC, 52 GND (power), 53 ~{FT}/PIPER (in), 54 ~{OE}R (in), 55 R/~{W}R (in), 56 ~{CNTRST}R (in), 57 CE1R (in), 58 ~{CE}0R (in), 59 NC, 60 NC, 61 NC, 62 NC, 63 GND (power), 64 NC, 65 A15R (in), 66 A14R (in), 67 A13R (in), 68 A12R (in), 69 A11R (in), 70 A10R (in), 71 A9R (in), 72 A8R (in), 73 A7R (in), 74 NC, 75 NC, 76 NC, 77 A6R (in), 78 A5R (in), 79 A4R (in), 80 A3R (in), 81 A2R (in), 82 A1R (in), 83 A0R (in), 84 ~{CNTEN}R (in), 85 CLKR (in), 86 ~{ADS}R (in), 87 GND (power), 88 GND (power), 89 ~{ADS}L (in), 90 CLKL (in), 91 ~{CNTEN}L (in), 92 A0L (in), 93 A1L (in), 94 A2L (in), 95 A3L (in), 96 A4L (in), 97 A5L (in), 98 A6L (in), 99 NC, 100 NC

## CY7C09189V-9AC
designator U?
3.3V 64K x 9 Synchronous Dual-Port Static RAM; Published: 11-Dec-2002; LatestRevisionDate: 13-Apr-2006; LatestRevisionNote: IPC-7351 Footprint Added.; DatasheetVersion: 2-Feb-2001; PackageVersion: Mar-2001; PackageReference: A100; Publisher: Altium Limited; PackageDescription: 100-Pin Thin Quad Flat Pack 0.5 mm Pitch; ComponentLink1Description: Manufacturer Link; ComponentLink1URL: http://www.cypress.com/; ComponentLink2Description: Datasheet; ComponentLink2URL: http://www.cypress.com/portal/server.pt/gateway/PTARGS_0_2_1524_209_259_43/http%3B/sjapp20.mis.cypress.com%3B7001/publishedcontent/publish/design_resources/datasheets/contents/cy7c09079v_5.pdf
footprint A100_N (Thin QFP, 100-Leads, Body 14x14mm, Pitch 0.5mm, IPC Medium Density)
footprint A100_L (Thin QFP, 100-Leads, Body 14x14mm, Pitch 0.5mm, IPC High Density)
footprint A100_M (Thin QFP, 100-Leads, Body 14x14mm, Pitch 0.5mm, IPC Low Density)
3D model CY7C09189V-A100 (100-Pin Thin Quad Flat Pack 0.5 mm Pitch)
pins: 1 NC, 2 NC, 3 A7L (in), 4 A8L (in), 5 A9L (in), 6 A10L (in), 7 A11L (in), 8 A12L (in), 9 A13L (in), 10 A14L (in), 11 A15L (in), 12 NC, 13 VCC (power), 14 NC, 15 NC, 16 NC, 17 NC, 18 ~{CE}0L (in), 19 CE1L (in), 20 ~{CNTRST}L (in), 21 R/~{W}L (in), 22 ~{OE}L (in), 23 ~{FT}/PIPEL (in), 24 NC, 25 NC, 26 GND (power), 27 I/O8L (io), 28 I/O7L (io), 29 I/O6L (io), 30 I/O5L (io), 31 I/O4L (io), 32 I/O3L (io), 33 I/O2L (io), 34 GND (power), 35 I/O1L (io), 36 I/O0L (io), 37 VCC (power), 38 GND (power), 39 I/O0R (io), 40 I/O1R (io), 41 I/O2R (io), 42 VCC (power), 43 I/O3R (io), 44 I/O4R (io), 45 I/O5R (io), 46 I/O6R (io), 47 I/O7R (io), 48 I/O8R (io), 49 NC, 50 NC, 51 NC, 52 GND (power), 53 ~{FT}/PIPER (in), 54 ~{OE}R (in), 55 R/~{W}R (in), 56 ~{CNTRST}R (in), 57 CE1R (in), 58 ~{CE}0R (in), 59 NC, 60 NC, 61 NC, 62 NC, 63 GND (power), 64 NC, 65 A15R (in), 66 A14R (in), 67 A13R (in), 68 A12R (in), 69 A11R (in), 70 A10R (in), 71 A9R (in), 72 A8R (in), 73 A7R (in), 74 NC, 75 NC, 76 NC, 77 A6R (in), 78 A5R (in), 79 A4R (in), 80 A3R (in), 81 A2R (in), 82 A1R (in), 83 A0R (in), 84 ~{CNTEN}R (in), 85 CLKR (in), 86 ~{ADS}R (in), 87 GND (power), 88 GND (power), 89 ~{ADS}L (in), 90 CLKL (in), 91 ~{CNTEN}L (in), 92 A0L (in), 93 A1L (in), 94 A2L (in), 95 A3L (in), 96 A4L (in), 97 A5L (in), 98 A6L (in), 99 NC, 100 NC

## CY7C09189V-12AC
designator U?
3.3V 64K x 9 Synchronous Dual-Port Static RAM; Published: 11-Dec-2002; LatestRevisionDate: 13-Apr-2006; LatestRevisionNote: IPC-7351 Footprint Added.; DatasheetVersion: 2-Feb-2001; PackageVersion: Mar-2001; PackageReference: A100; Publisher: Altium Limited; PackageDescription: 100-Pin Thin Quad Flat Pack 0.5 mm Pitch; ComponentLink1Description: Manufacturer Link; ComponentLink1URL: http://www.cypress.com/; ComponentLink2Description: Datasheet; ComponentLink2URL: http://www.cypress.com/portal/server.pt/gateway/PTARGS_0_2_1524_209_259_43/http%3B/sjapp20.mis.cypress.com%3B7001/publishedcontent/publish/design_resources/datasheets/contents/cy7c09079v_5.pdf
footprint A100_N (Thin QFP, 100-Leads, Body 14x14mm, Pitch 0.5mm, IPC Medium Density)
footprint A100_L (Thin QFP, 100-Leads, Body 14x14mm, Pitch 0.5mm, IPC High Density)
footprint A100_M (Thin QFP, 100-Leads, Body 14x14mm, Pitch 0.5mm, IPC Low Density)
3D model CY7C09189V-A100 (100-Pin Thin Quad Flat Pack 0.5 mm Pitch)
pins: 1 NC, 2 NC, 3 A7L (in), 4 A8L (in), 5 A9L (in), 6 A10L (in), 7 A11L (in), 8 A12L (in), 9 A13L (in), 10 A14L (in), 11 A15L (in), 12 NC, 13 VCC (power), 14 NC, 15 NC, 16 NC, 17 NC, 18 ~{CE}0L (in), 19 CE1L (in), 20 ~{CNTRST}L (in), 21 R/~{W}L (in), 22 ~{OE}L (in), 23 ~{FT}/PIPEL (in), 24 NC, 25 NC, 26 GND (power), 27 I/O8L (io), 28 I/O7L (io), 29 I/O6L (io), 30 I/O5L (io), 31 I/O4L (io), 32 I/O3L (io), 33 I/O2L (io), 34 GND (power), 35 I/O1L (io), 36 I/O0L (io), 37 VCC (power), 38 GND (power), 39 I/O0R (io), 40 I/O1R (io), 41 I/O2R (io), 42 VCC (power), 43 I/O3R (io), 44 I/O4R (io), 45 I/O5R (io), 46 I/O6R (io), 47 I/O7R (io), 48 I/O8R (io), 49 NC, 50 NC, 51 NC, 52 GND (power), 53 ~{FT}/PIPER (in), 54 ~{OE}R (in), 55 R/~{W}R (in), 56 ~{CNTRST}R (in), 57 CE1R (in), 58 ~{CE}0R (in), 59 NC, 60 NC, 61 NC, 62 NC, 63 GND (power), 64 NC, 65 A15R (in), 66 A14R (in), 67 A13R (in), 68 A12R (in), 69 A11R (in), 70 A10R (in), 71 A9R (in), 72 A8R (in), 73 A7R (in), 74 NC, 75 NC, 76 NC, 77 A6R (in), 78 A5R (in), 79 A4R (in), 80 A3R (in), 81 A2R (in), 82 A1R (in), 83 A0R (in), 84 ~{CNTEN}R (in), 85 CLKR (in), 86 ~{ADS}R (in), 87 GND (power), 88 GND (power), 89 ~{ADS}L (in), 90 CLKL (in), 91 ~{CNTEN}L (in), 92 A0L (in), 93 A1L (in), 94 A2L (in), 95 A3L (in), 96 A4L (in), 97 A5L (in), 98 A6L (in), 99 NC, 100 NC

## CY7C09199V-6AC
designator U?
3.3V 128K x 9 Synchronous Dual-Port Static RAM; Published: 11-Dec-2002; LatestRevisionDate: 13-Apr-2006; LatestRevisionNote: IPC-7351 Footprint Added.; DatasheetVersion: 2-Feb-2001; PackageVersion: Mar-2001; PackageReference: A100; Publisher: Altium Limited; PackageDescription: 100-Pin Thin Quad Flat Pack 0.5 mm Pitch; ComponentLink1Description: Manufacturer Link; ComponentLink1URL: http://www.cypress.com/; ComponentLink2Description: Datasheet; ComponentLink2URL: http://www.cypress.com/portal/server.pt/gateway/PTARGS_0_2_1524_209_259_43/http%3B/sjapp20.mis.cypress.com%3B7001/publishedcontent/publish/design_resources/datasheets/contents/cy7c09079v_5.pdf
footprint A100_N (Thin QFP, 100-Leads, Body 14x14mm, Pitch 0.5mm, IPC Medium Density)
footprint A100_L (Thin QFP, 100-Leads, Body 14x14mm, Pitch 0.5mm, IPC High Density)
footprint A100_M (Thin QFP, 100-Leads, Body 14x14mm, Pitch 0.5mm, IPC Low Density)
3D model CY7C09199V-A100 (100-Pin Thin Quad Flat Pack 0.5 mm Pitch)
pins: 1 NC, 2 NC, 3 A7L (in), 4 A8L (in), 5 A9L (in), 6 A10L (in), 7 A11L (in), 8 A12L (in), 9 A13L (in), 10 A14L (in), 11 A15L (in), 12 A16L (in), 13 VCC (power), 14 NC, 15 NC, 16 NC, 17 NC, 18 ~{CE}0L (in), 19 CE1L (in), 20 ~{CNTRST}L (in), 21 R/~{W}L (in), 22 ~{OE}L (in), 23 ~{FT}/PIPEL (in), 24 NC, 25 NC, 26 GND (power), 27 I/O8L (io), 28 I/O7L (io), 29 I/O6L (io), 30 I/O5L (io), 31 I/O4L (io), 32 I/O3L (io), 33 I/O2L (io), 34 GND (power), 35 I/O1L (io), 36 I/O0L (io), 37 VCC (power), 38 GND (power), 39 I/O0R (io), 40 I/O1R (io), 41 I/O2R (io), 42 VCC (power), 43 I/O3R (io), 44 I/O4R (io), 45 I/O5R (io), 46 I/O6R (io), 47 I/O7R (io), 48 I/O8R (io), 49 NC, 50 NC, 51 NC, 52 GND (power), 53 ~{FT}/PIPER (in), 54 ~{OE}R (in), 55 R/~{W}R (in), 56 ~{CNTRST}R (in), 57 CE1R (in), 58 ~{CE}0R (in), 59 NC, 60 NC, 61 NC, 62 NC, 63 GND (power), 64 A16R (in), 65 A15R (in), 66 A14R (in), 67 A13R (in), 68 A12R (in), 69 A11R (in), 70 A10R (in), 71 A9R (in), 72 A8R (in), 73 A7R (in), 74 NC, 75 NC, 76 NC, 77 A6R (in), 78 A5R (in), 79 A4R (in), 80 A3R (in), 81 A2R (in), 82 A1R (in), 83 A0R (in), 84 ~{CNTEN}R (in), 85 CLKR (in), 86 ~{ADS}R (in), 87 GND (power), 88 GND (power), 89 ~{ADS}L (in), 90 CLKL (in), 91 ~{CNTEN}L (in), 92 A0L (in), 93 A1L (in), 94 A2L (in), 95 A3L (in), 96 A4L (in), 97 A5L (in), 98 A6L (in), 99 NC, 100 NC

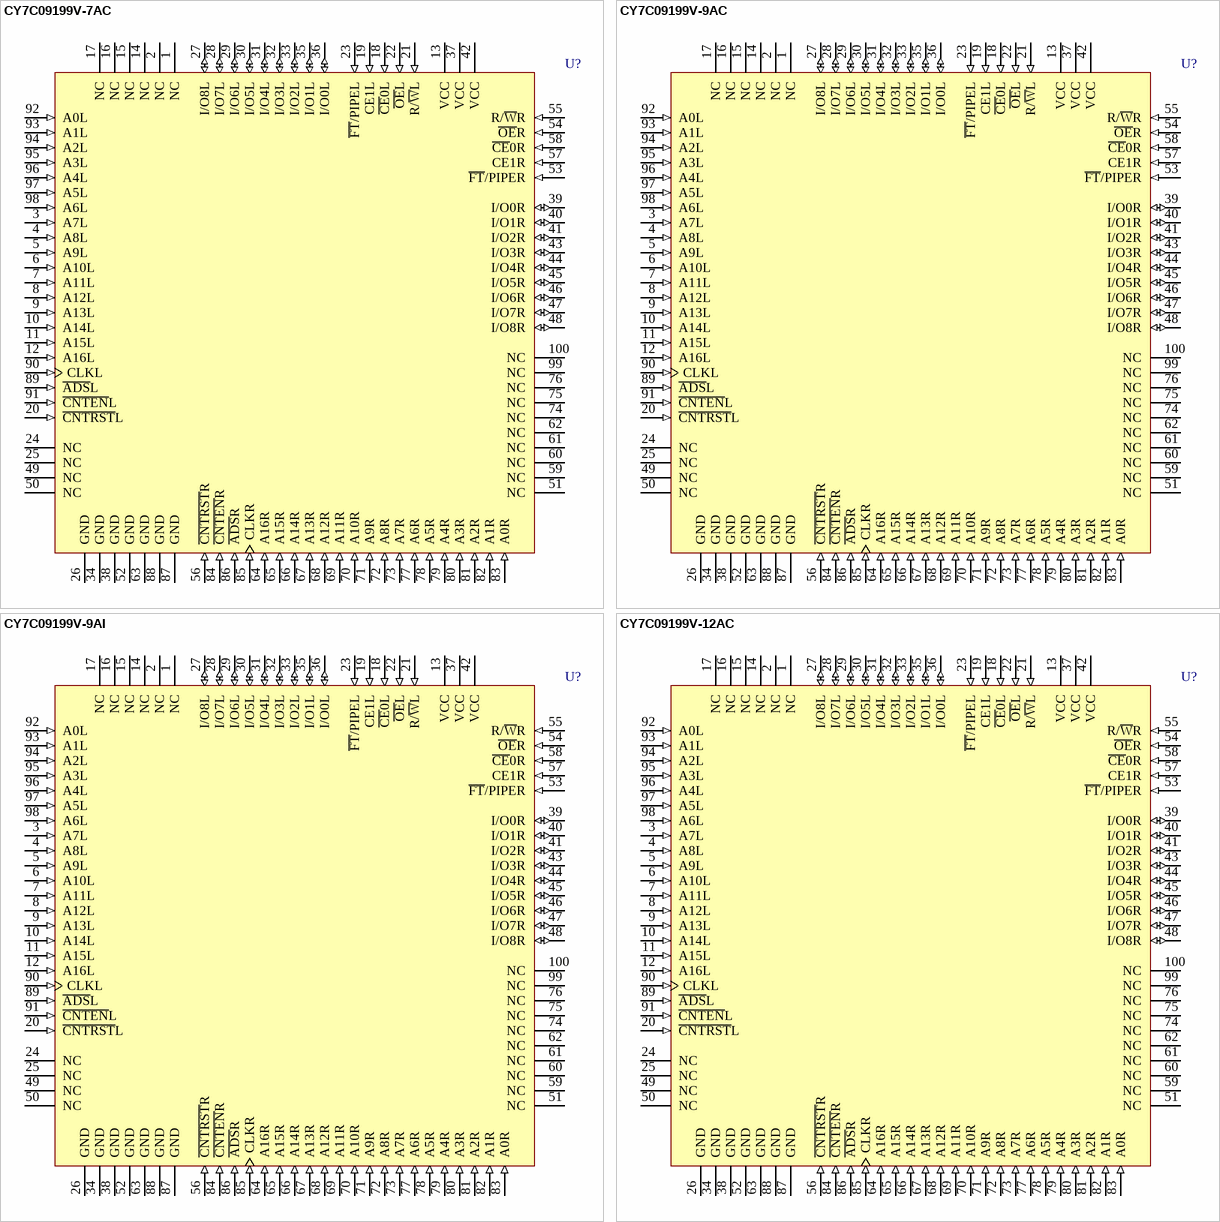
[diagram p15: symbols CY7C09199V-7AC to CY7C09199V-12AC]

## CY7C09199V-7AC
designator U?
3.3V 128K x 9 Synchronous Dual-Port Static RAM; Published: 11-Dec-2002; LatestRevisionDate: 13-Apr-2006; LatestRevisionNote: IPC-7351 Footprint Added.; DatasheetVersion: 2-Feb-2001; PackageVersion: Mar-2001; PackageReference: A100; Publisher: Altium Limited; PackageDescription: 100-Pin Thin Quad Flat Pack 0.5 mm Pitch; ComponentLink1Description: Manufacturer Link; ComponentLink1URL: http://www.cypress.com/; ComponentLink2Description: Datasheet; ComponentLink2URL: http://www.cypress.com/portal/server.pt/gateway/PTARGS_0_2_1524_209_259_43/http%3B/sjapp20.mis.cypress.com%3B7001/publishedcontent/publish/design_resources/datasheets/contents/cy7c09079v_5.pdf
footprint A100_N (Thin QFP, 100-Leads, Body 14x14mm, Pitch 0.5mm, IPC Medium Density)
footprint A100_L (Thin QFP, 100-Leads, Body 14x14mm, Pitch 0.5mm, IPC High Density)
footprint A100_M (Thin QFP, 100-Leads, Body 14x14mm, Pitch 0.5mm, IPC Low Density)
3D model CY7C09199V-A100 (100-Pin Thin Quad Flat Pack 0.5 mm Pitch)
pins: 1 NC, 2 NC, 3 A7L (in), 4 A8L (in), 5 A9L (in), 6 A10L (in), 7 A11L (in), 8 A12L (in), 9 A13L (in), 10 A14L (in), 11 A15L (in), 12 A16L (in), 13 VCC (power), 14 NC, 15 NC, 16 NC, 17 NC, 18 ~{CE}0L (in), 19 CE1L (in), 20 ~{CNTRST}L (in), 21 R/~{W}L (in), 22 ~{OE}L (in), 23 ~{FT}/PIPEL (in), 24 NC, 25 NC, 26 GND (power), 27 I/O8L (io), 28 I/O7L (io), 29 I/O6L (io), 30 I/O5L (io), 31 I/O4L (io), 32 I/O3L (io), 33 I/O2L (io), 34 GND (power), 35 I/O1L (io), 36 I/O0L (io), 37 VCC (power), 38 GND (power), 39 I/O0R (io), 40 I/O1R (io), 41 I/O2R (io), 42 VCC (power), 43 I/O3R (io), 44 I/O4R (io), 45 I/O5R (io), 46 I/O6R (io), 47 I/O7R (io), 48 I/O8R (io), 49 NC, 50 NC, 51 NC, 52 GND (power), 53 ~{FT}/PIPER (in), 54 ~{OE}R (in), 55 R/~{W}R (in), 56 ~{CNTRST}R (in), 57 CE1R (in), 58 ~{CE}0R (in), 59 NC, 60 NC, 61 NC, 62 NC, 63 GND (power), 64 A16R (in), 65 A15R (in), 66 A14R (in), 67 A13R (in), 68 A12R (in), 69 A11R (in), 70 A10R (in), 71 A9R (in), 72 A8R (in), 73 A7R (in), 74 NC, 75 NC, 76 NC, 77 A6R (in), 78 A5R (in), 79 A4R (in), 80 A3R (in), 81 A2R (in), 82 A1R (in), 83 A0R (in), 84 ~{CNTEN}R (in), 85 CLKR (in), 86 ~{ADS}R (in), 87 GND (power), 88 GND (power), 89 ~{ADS}L (in), 90 CLKL (in), 91 ~{CNTEN}L (in), 92 A0L (in), 93 A1L (in), 94 A2L (in), 95 A3L (in), 96 A4L (in), 97 A5L (in), 98 A6L (in), 99 NC, 100 NC

## CY7C09199V-9AC
designator U?
3.3V 128K x 9 Synchronous Dual-Port Static RAM; Published: 11-Dec-2002; LatestRevisionDate: 13-Apr-2006; LatestRevisionNote: IPC-7351 Footprint Added.; DatasheetVersion: 2-Feb-2001; PackageVersion: Mar-2001; PackageReference: A100; Publisher: Altium Limited; PackageDescription: 100-Pin Thin Quad Flat Pack 0.5 mm Pitch; ComponentLink1Description: Manufacturer Link; ComponentLink1URL: http://www.cypress.com/; ComponentLink2Description: Datasheet; ComponentLink2URL: http://www.cypress.com/portal/server.pt/gateway/PTARGS_0_2_1524_209_259_43/http%3B/sjapp20.mis.cypress.com%3B7001/publishedcontent/publish/design_resources/datasheets/contents/cy7c09079v_5.pdf
footprint A100_N (Thin QFP, 100-Leads, Body 14x14mm, Pitch 0.5mm, IPC Medium Density)
footprint A100_L (Thin QFP, 100-Leads, Body 14x14mm, Pitch 0.5mm, IPC High Density)
footprint A100_M (Thin QFP, 100-Leads, Body 14x14mm, Pitch 0.5mm, IPC Low Density)
3D model CY7C09199V-A100 (100-Pin Thin Quad Flat Pack 0.5 mm Pitch)
pins: 1 NC, 2 NC, 3 A7L (in), 4 A8L (in), 5 A9L (in), 6 A10L (in), 7 A11L (in), 8 A12L (in), 9 A13L (in), 10 A14L (in), 11 A15L (in), 12 A16L (in), 13 VCC (power), 14 NC, 15 NC, 16 NC, 17 NC, 18 ~{CE}0L (in), 19 CE1L (in), 20 ~{CNTRST}L (in), 21 R/~{W}L (in), 22 ~{OE}L (in), 23 ~{FT}/PIPEL (in), 24 NC, 25 NC, 26 GND (power), 27 I/O8L (io), 28 I/O7L (io), 29 I/O6L (io), 30 I/O5L (io), 31 I/O4L (io), 32 I/O3L (io), 33 I/O2L (io), 34 GND (power), 35 I/O1L (io), 36 I/O0L (io), 37 VCC (power), 38 GND (power), 39 I/O0R (io), 40 I/O1R (io), 41 I/O2R (io), 42 VCC (power), 43 I/O3R (io), 44 I/O4R (io), 45 I/O5R (io), 46 I/O6R (io), 47 I/O7R (io), 48 I/O8R (io), 49 NC, 50 NC, 51 NC, 52 GND (power), 53 ~{FT}/PIPER (in), 54 ~{OE}R (in), 55 R/~{W}R (in), 56 ~{CNTRST}R (in), 57 CE1R (in), 58 ~{CE}0R (in), 59 NC, 60 NC, 61 NC, 62 NC, 63 GND (power), 64 A16R (in), 65 A15R (in), 66 A14R (in), 67 A13R (in), 68 A12R (in), 69 A11R (in), 70 A10R (in), 71 A9R (in), 72 A8R (in), 73 A7R (in), 74 NC, 75 NC, 76 NC, 77 A6R (in), 78 A5R (in), 79 A4R (in), 80 A3R (in), 81 A2R (in), 82 A1R (in), 83 A0R (in), 84 ~{CNTEN}R (in), 85 CLKR (in), 86 ~{ADS}R (in), 87 GND (power), 88 GND (power), 89 ~{ADS}L (in), 90 CLKL (in), 91 ~{CNTEN}L (in), 92 A0L (in), 93 A1L (in), 94 A2L (in), 95 A3L (in), 96 A4L (in), 97 A5L (in), 98 A6L (in), 99 NC, 100 NC

## CY7C09199V-9AI
designator U?
3.3V 128K x 9 Synchronous Dual-Port Static RAM; Published: 11-Dec-2002; LatestRevisionDate: 13-Apr-2006; LatestRevisionNote: IPC-7351 Footprint Added.; DatasheetVersion: 2-Feb-2001; PackageVersion: Mar-2001; PackageReference: A100; Publisher: Altium Limited; PackageDescription: 100-Pin Thin Quad Flat Pack 0.5 mm Pitch; ComponentLink1Description: Manufacturer Link; ComponentLink1URL: http://www.cypress.com/; ComponentLink2Description: Datasheet; ComponentLink2URL: http://www.cypress.com/portal/server.pt/gateway/PTARGS_0_2_1524_209_259_43/http%3B/sjapp20.mis.cypress.com%3B7001/publishedcontent/publish/design_resources/datasheets/contents/cy7c09079v_5.pdf
footprint A100_N (Thin QFP, 100-Leads, Body 14x14mm, Pitch 0.5mm, IPC Medium Density)
footprint A100_L (Thin QFP, 100-Leads, Body 14x14mm, Pitch 0.5mm, IPC High Density)
footprint A100_M (Thin QFP, 100-Leads, Body 14x14mm, Pitch 0.5mm, IPC Low Density)
3D model CY7C09199V-A100 (100-Pin Thin Quad Flat Pack 0.5 mm Pitch)
pins: 1 NC, 2 NC, 3 A7L (in), 4 A8L (in), 5 A9L (in), 6 A10L (in), 7 A11L (in), 8 A12L (in), 9 A13L (in), 10 A14L (in), 11 A15L (in), 12 A16L (in), 13 VCC (power), 14 NC, 15 NC, 16 NC, 17 NC, 18 ~{CE}0L (in), 19 CE1L (in), 20 ~{CNTRST}L (in), 21 R/~{W}L (in), 22 ~{OE}L (in), 23 ~{FT}/PIPEL (in), 24 NC, 25 NC, 26 GND (power), 27 I/O8L (io), 28 I/O7L (io), 29 I/O6L (io), 30 I/O5L (io), 31 I/O4L (io), 32 I/O3L (io), 33 I/O2L (io), 34 GND (power), 35 I/O1L (io), 36 I/O0L (io), 37 VCC (power), 38 GND (power), 39 I/O0R (io), 40 I/O1R (io), 41 I/O2R (io), 42 VCC (power), 43 I/O3R (io), 44 I/O4R (io), 45 I/O5R (io), 46 I/O6R (io), 47 I/O7R (io), 48 I/O8R (io), 49 NC, 50 NC, 51 NC, 52 GND (power), 53 ~{FT}/PIPER (in), 54 ~{OE}R (in), 55 R/~{W}R (in), 56 ~{CNTRST}R (in), 57 CE1R (in), 58 ~{CE}0R (in), 59 NC, 60 NC, 61 NC, 62 NC, 63 GND (power), 64 A16R (in), 65 A15R (in), 66 A14R (in), 67 A13R (in), 68 A12R (in), 69 A11R (in), 70 A10R (in), 71 A9R (in), 72 A8R (in), 73 A7R (in), 74 NC, 75 NC, 76 NC, 77 A6R (in), 78 A5R (in), 79 A4R (in), 80 A3R (in), 81 A2R (in), 82 A1R (in), 83 A0R (in), 84 ~{CNTEN}R (in), 85 CLKR (in), 86 ~{ADS}R (in), 87 GND (power), 88 GND (power), 89 ~{ADS}L (in), 90 CLKL (in), 91 ~{CNTEN}L (in), 92 A0L (in), 93 A1L (in), 94 A2L (in), 95 A3L (in), 96 A4L (in), 97 A5L (in), 98 A6L (in), 99 NC, 100 NC

## CY7C09199V-12AC
designator U?
3.3V 128K x 9 Synchronous Dual-Port Static RAM; Published: 11-Dec-2002; LatestRevisionDate: 13-Apr-2006; LatestRevisionNote: IPC-7351 Footprint Added.; DatasheetVersion: 2-Feb-2001; PackageVersion: Mar-2001; PackageReference: A100; Publisher: Altium Limited; PackageDescription: 100-Pin Thin Quad Flat Pack 0.5 mm Pitch; ComponentLink1Description: Manufacturer Link; ComponentLink1URL: http://www.cypress.com/; ComponentLink2Description: Datasheet; ComponentLink2URL: http://www.cypress.com/portal/server.pt/gateway/PTARGS_0_2_1524_209_259_43/http%3B/sjapp20.mis.cypress.com%3B7001/publishedcontent/publish/design_resources/datasheets/contents/cy7c09079v_5.pdf
footprint A100_N (Thin QFP, 100-Leads, Body 14x14mm, Pitch 0.5mm, IPC Medium Density)
footprint A100_L (Thin QFP, 100-Leads, Body 14x14mm, Pitch 0.5mm, IPC High Density)
footprint A100_M (Thin QFP, 100-Leads, Body 14x14mm, Pitch 0.5mm, IPC Low Density)
3D model CY7C09199V-A100 (100-Pin Thin Quad Flat Pack 0.5 mm Pitch)
pins: 1 NC, 2 NC, 3 A7L (in), 4 A8L (in), 5 A9L (in), 6 A10L (in), 7 A11L (in), 8 A12L (in), 9 A13L (in), 10 A14L (in), 11 A15L (in), 12 A16L (in), 13 VCC (power), 14 NC, 15 NC, 16 NC, 17 NC, 18 ~{CE}0L (in), 19 CE1L (in), 20 ~{CNTRST}L (in), 21 R/~{W}L (in), 22 ~{OE}L (in), 23 ~{FT}/PIPEL (in), 24 NC, 25 NC, 26 GND (power), 27 I/O8L (io), 28 I/O7L (io), 29 I/O6L (io), 30 I/O5L (io), 31 I/O4L (io), 32 I/O3L (io), 33 I/O2L (io), 34 GND (power), 35 I/O1L (io), 36 I/O0L (io), 37 VCC (power), 38 GND (power), 39 I/O0R (io), 40 I/O1R (io), 41 I/O2R (io), 42 VCC (power), 43 I/O3R (io), 44 I/O4R (io), 45 I/O5R (io), 46 I/O6R (io), 47 I/O7R (io), 48 I/O8R (io), 49 NC, 50 NC, 51 NC, 52 GND (power), 53 ~{FT}/PIPER (in), 54 ~{OE}R (in), 55 R/~{W}R (in), 56 ~{CNTRST}R (in), 57 CE1R (in), 58 ~{CE}0R (in), 59 NC, 60 NC, 61 NC, 62 NC, 63 GND (power), 64 A16R (in), 65 A15R (in), 66 A14R (in), 67 A13R (in), 68 A12R (in), 69 A11R (in), 70 A10R (in), 71 A9R (in), 72 A8R (in), 73 A7R (in), 74 NC, 75 NC, 76 NC, 77 A6R (in), 78 A5R (in), 79 A4R (in), 80 A3R (in), 81 A2R (in), 82 A1R (in), 83 A0R (in), 84 ~{CNTEN}R (in), 85 CLKR (in), 86 ~{ADS}R (in), 87 GND (power), 88 GND (power), 89 ~{ADS}L (in), 90 CLKL (in), 91 ~{CNTEN}L (in), 92 A0L (in), 93 A1L (in), 94 A2L (in), 95 A3L (in), 96 A4L (in), 97 A5L (in), 98 A6L (in), 99 NC, 100 NC

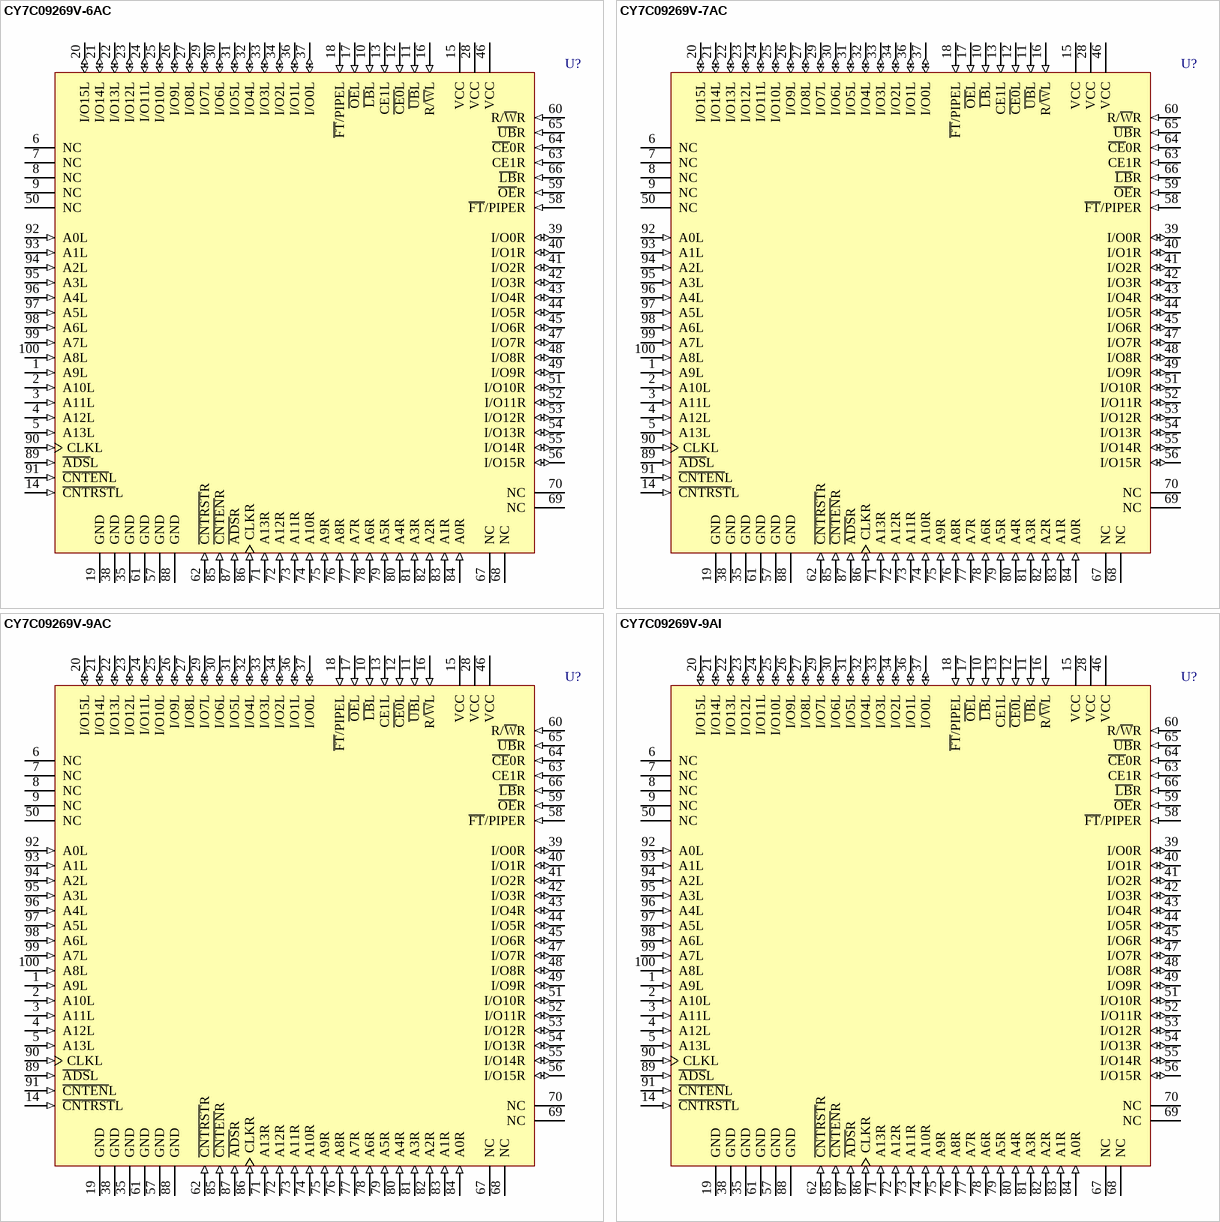
[diagram p16: symbols CY7C09269V-6AC to CY7C09269V-9AI]

## CY7C09269V-6AC
designator U?
3.3V 16K x 16 Synchronous Dual-Port Static RAM; Published: 11-Dec-2002; LatestRevisionDate: 13-Apr-2006; LatestRevisionNote: IPC-7351 Footprint Added.; DatasheetVersion: 2-Feb-2001; PackageVersion: Mar-2001; PackageReference: A100; Publisher: Altium Limited; PackageDescription: 100-Pin Thin Quad Flat Pack 0.5 mm Pitch; ComponentLink1Description: Manufacturer Link; ComponentLink1URL: http://www.cypress.com/; ComponentLink2Description: Datasheet; ComponentLink2URL: http://www.cypress.com/portal/server.pt/gateway/PTARGS_0_2_1524_209_259_43/http%3B/sjapp20.mis.cypress.com%3B7001/publishedcontent/publish/design_resources/datasheets/contents/cy7c09269v_5.pdf
footprint A100_N (Thin QFP, 100-Leads, Body 14x14mm, Pitch 0.5mm, IPC Medium Density)
footprint A100_L (Thin QFP, 100-Leads, Body 14x14mm, Pitch 0.5mm, IPC High Density)
footprint A100_M (Thin QFP, 100-Leads, Body 14x14mm, Pitch 0.5mm, IPC Low Density)
3D model CY7C09269V-A100 (100-Pin Thin Quad Flat Pack 0.5 mm Pitch)
pins: 1 A9L (in), 2 A10L (in), 3 A11L (in), 4 A12L (in), 5 A13L (in), 6 NC, 7 NC, 8 NC, 9 NC, 10 ~{LB}L (in), 11 ~{UB}L (in), 12 ~{CE0}L (in), 13 CE1L (in), 14 ~{CNTRST}L (in), 15 VCC (power), 16 R/~{W}L (in), 17 ~{OE}L (in), 18 ~{FT}/PIPEL (in), 19 GND (power), 20 I/O15L (io), 21 I/O14L (io), 22 I/O13L (io), 23 I/O12L (io), 24 I/O11L (io), 25 I/O10L (io), 26 I/O9L (io), 27 I/O8L (io), 28 VCC (power), 29 I/O7L (io), 30 I/O6L (io), 31 I/O5L (io), 32 I/O4L (io), 33 I/O3L (io), 34 I/O2L (io), 35 GND (power), 36 I/O1L (io), 37 I/O0L (io), 38 GND (power), 39 I/O0R (io), 40 I/O1R (io), 41 I/O2R (io), 42 I/O3R (io), 43 I/O4R (io), 44 I/O5R (io), 45 I/O6R (io), 46 VCC (power), 47 I/O7R (io), 48 I/O8R (io), 49 I/O9R (io), 50 NC, 51 I/O10R (io), 52 I/O11R (io), 53 I/O12R (io), 54 I/O13R (io), 55 I/O14R (io), 56 I/O15R (io), 57 GND (power), 58 ~{FT}/PIPER (in), 59 ~{OE}R (in), 60 R/~{W}R (in), 61 GND (power), 62 ~{CNTRST}R (in), 63 CE1R (in), 64 ~{CE}0R (in), 65 ~{UB}R (in), 66 ~{LB}R (in), 67 NC, 68 NC, 69 NC, 70 NC, 71 A13R (in), 72 A12R (in), 73 A11R (in), 74 A10R (in), 75 A9R (in), 76 A8R (in), 77 A7R (in), 78 A6R (in), 79 A5R (in), 80 A4R (in), 81 A3R (in), 82 A2R (in), 83 A1R (in), 84 A0R (in), 85 ~{CNTEN}R (in), 86 CLKR (in), 87 ~{ADS}R (in), 88 GND (power), 89 ~{ADS}L (in), 90 CLKL (in), 91 ~{CNTEN}L (in), 92 A0L (in), 93 A1L (in), 94 A2L (in), 95 A3L (in), 96 A4L (in), 97 A5L (in), 98 A6L (in), 99 A7L (in), 100 A8L (in)

## CY7C09269V-7AC
designator U?
3.3V 16K x 16 Synchronous Dual-Port Static RAM; Published: 11-Dec-2002; LatestRevisionDate: 13-Apr-2006; LatestRevisionNote: IPC-7351 Footprint Added.; DatasheetVersion: 2-Feb-2001; PackageVersion: Mar-2001; PackageReference: A100; Publisher: Altium Limited; PackageDescription: 100-Pin Thin Quad Flat Pack 0.5 mm Pitch; ComponentLink1Description: Manufacturer Link; ComponentLink1URL: http://www.cypress.com/; ComponentLink2Description: Datasheet; ComponentLink2URL: http://www.cypress.com/portal/server.pt/gateway/PTARGS_0_2_1524_209_259_43/http%3B/sjapp20.mis.cypress.com%3B7001/publishedcontent/publish/design_resources/datasheets/contents/cy7c09269v_5.pdf
footprint A100_N (Thin QFP, 100-Leads, Body 14x14mm, Pitch 0.5mm, IPC Medium Density)
footprint A100_L (Thin QFP, 100-Leads, Body 14x14mm, Pitch 0.5mm, IPC High Density)
footprint A100_M (Thin QFP, 100-Leads, Body 14x14mm, Pitch 0.5mm, IPC Low Density)
3D model CY7C09269V-A100 (100-Pin Thin Quad Flat Pack 0.5 mm Pitch)
pins: 1 A9L (in), 2 A10L (in), 3 A11L (in), 4 A12L (in), 5 A13L (in), 6 NC, 7 NC, 8 NC, 9 NC, 10 ~{LB}L (in), 11 ~{UB}L (in), 12 ~{CE0}L (in), 13 CE1L (in), 14 ~{CNTRST}L (in), 15 VCC (power), 16 R/~{W}L (in), 17 ~{OE}L (in), 18 ~{FT}/PIPEL (in), 19 GND (power), 20 I/O15L (io), 21 I/O14L (io), 22 I/O13L (io), 23 I/O12L (io), 24 I/O11L (io), 25 I/O10L (io), 26 I/O9L (io), 27 I/O8L (io), 28 VCC (power), 29 I/O7L (io), 30 I/O6L (io), 31 I/O5L (io), 32 I/O4L (io), 33 I/O3L (io), 34 I/O2L (io), 35 GND (power), 36 I/O1L (io), 37 I/O0L (io), 38 GND (power), 39 I/O0R (io), 40 I/O1R (io), 41 I/O2R (io), 42 I/O3R (io), 43 I/O4R (io), 44 I/O5R (io), 45 I/O6R (io), 46 VCC (power), 47 I/O7R (io), 48 I/O8R (io), 49 I/O9R (io), 50 NC, 51 I/O10R (io), 52 I/O11R (io), 53 I/O12R (io), 54 I/O13R (io), 55 I/O14R (io), 56 I/O15R (io), 57 GND (power), 58 ~{FT}/PIPER (in), 59 ~{OE}R (in), 60 R/~{W}R (in), 61 GND (power), 62 ~{CNTRST}R (in), 63 CE1R (in), 64 ~{CE}0R (in), 65 ~{UB}R (in), 66 ~{LB}R (in), 67 NC, 68 NC, 69 NC, 70 NC, 71 A13R (in), 72 A12R (in), 73 A11R (in), 74 A10R (in), 75 A9R (in), 76 A8R (in), 77 A7R (in), 78 A6R (in), 79 A5R (in), 80 A4R (in), 81 A3R (in), 82 A2R (in), 83 A1R (in), 84 A0R (in), 85 ~{CNTEN}R (in), 86 CLKR (in), 87 ~{ADS}R (in), 88 GND (power), 89 ~{ADS}L (in), 90 CLKL (in), 91 ~{CNTEN}L (in), 92 A0L (in), 93 A1L (in), 94 A2L (in), 95 A3L (in), 96 A4L (in), 97 A5L (in), 98 A6L (in), 99 A7L (in), 100 A8L (in)

## CY7C09269V-9AC
designator U?
3.3V 16K x 16 Synchronous Dual-Port Static RAM; Published: 11-Dec-2002; LatestRevisionDate: 13-Apr-2006; LatestRevisionNote: IPC-7351 Footprint Added.; DatasheetVersion: 2-Feb-2001; PackageVersion: Mar-2001; PackageReference: A100; Publisher: Altium Limited; PackageDescription: 100-Pin Thin Quad Flat Pack 0.5 mm Pitch; ComponentLink1Description: Manufacturer Link; ComponentLink1URL: http://www.cypress.com/; ComponentLink2Description: Datasheet; ComponentLink2URL: http://www.cypress.com/portal/server.pt/gateway/PTARGS_0_2_1524_209_259_43/http%3B/sjapp20.mis.cypress.com%3B7001/publishedcontent/publish/design_resources/datasheets/contents/cy7c09269v_5.pdf
footprint A100_N (Thin QFP, 100-Leads, Body 14x14mm, Pitch 0.5mm, IPC Medium Density)
footprint A100_L (Thin QFP, 100-Leads, Body 14x14mm, Pitch 0.5mm, IPC High Density)
footprint A100_M (Thin QFP, 100-Leads, Body 14x14mm, Pitch 0.5mm, IPC Low Density)
3D model CY7C09269V-A100 (100-Pin Thin Quad Flat Pack 0.5 mm Pitch)
pins: 1 A9L (in), 2 A10L (in), 3 A11L (in), 4 A12L (in), 5 A13L (in), 6 NC, 7 NC, 8 NC, 9 NC, 10 ~{LB}L (in), 11 ~{UB}L (in), 12 ~{CE0}L (in), 13 CE1L (in), 14 ~{CNTRST}L (in), 15 VCC (power), 16 R/~{W}L (in), 17 ~{OE}L (in), 18 ~{FT}/PIPEL (in), 19 GND (power), 20 I/O15L (io), 21 I/O14L (io), 22 I/O13L (io), 23 I/O12L (io), 24 I/O11L (io), 25 I/O10L (io), 26 I/O9L (io), 27 I/O8L (io), 28 VCC (power), 29 I/O7L (io), 30 I/O6L (io), 31 I/O5L (io), 32 I/O4L (io), 33 I/O3L (io), 34 I/O2L (io), 35 GND (power), 36 I/O1L (io), 37 I/O0L (io), 38 GND (power), 39 I/O0R (io), 40 I/O1R (io), 41 I/O2R (io), 42 I/O3R (io), 43 I/O4R (io), 44 I/O5R (io), 45 I/O6R (io), 46 VCC (power), 47 I/O7R (io), 48 I/O8R (io), 49 I/O9R (io), 50 NC, 51 I/O10R (io), 52 I/O11R (io), 53 I/O12R (io), 54 I/O13R (io), 55 I/O14R (io), 56 I/O15R (io), 57 GND (power), 58 ~{FT}/PIPER (in), 59 ~{OE}R (in), 60 R/~{W}R (in), 61 GND (power), 62 ~{CNTRST}R (in), 63 CE1R (in), 64 ~{CE}0R (in), 65 ~{UB}R (in), 66 ~{LB}R (in), 67 NC, 68 NC, 69 NC, 70 NC, 71 A13R (in), 72 A12R (in), 73 A11R (in), 74 A10R (in), 75 A9R (in), 76 A8R (in), 77 A7R (in), 78 A6R (in), 79 A5R (in), 80 A4R (in), 81 A3R (in), 82 A2R (in), 83 A1R (in), 84 A0R (in), 85 ~{CNTEN}R (in), 86 CLKR (in), 87 ~{ADS}R (in), 88 GND (power), 89 ~{ADS}L (in), 90 CLKL (in), 91 ~{CNTEN}L (in), 92 A0L (in), 93 A1L (in), 94 A2L (in), 95 A3L (in), 96 A4L (in), 97 A5L (in), 98 A6L (in), 99 A7L (in), 100 A8L (in)